# Altium integrated library Microchip PIC24F.IntLib: 529 symbols (part 7 of 32)
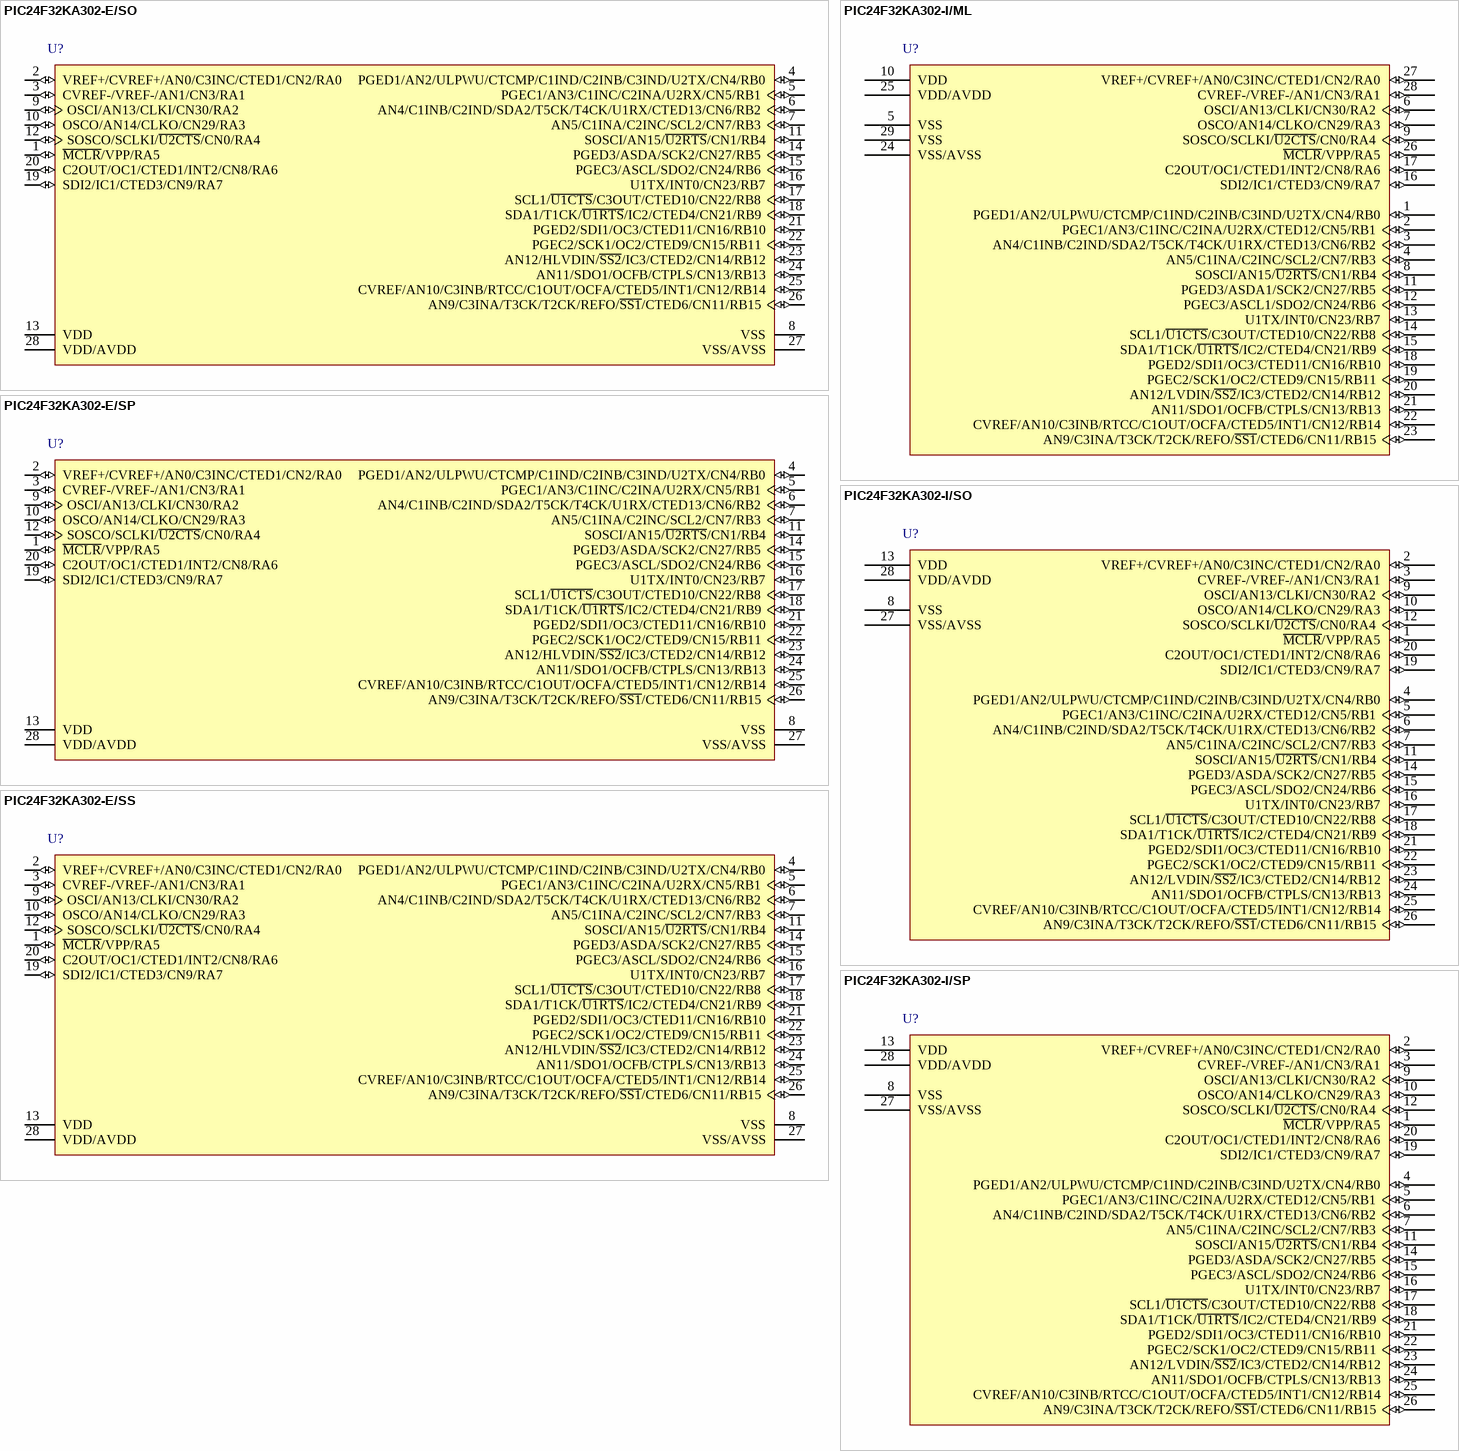
[diagram p128: symbols PIC24F32KA302-E/SO to PIC24F32KA302-I/SP]

## PIC24F32KA302-I/SO
designator U?
16-Bit Flash Microcontroller with XLP Technology, 32KB Flash, 2KB SRAM, 28-Pin SOIC, Industrial Temperature; Manufacturer: Microchip; PartNumber: PIC24F32KA302-I/SO; DatasheetVersion: revB, Apr-2011; PackageVersion: revBB, Aug-2009; PackageReference: SOIC-SO28; PackageDescription: 28-Lead Plastic Small Outline (SO) - Wide 7.50mm Body [SOIC]; Supplier 1: Digi-Key; Supplier Part Number 1: PIC24F32KA302-I/SO-ND; Supplier 2: Farnell; Supplier Part Number 2: 1898800; Supplier 3: Newark; Supplier Part Number 3: 79R3598; Supplier 4: Mouser; Supplier Part Number 4: 579-PIC24F32KA302ISO; Mounting Technology: Surface Mount; Code_JEDEC: MS-013; ComponentLink1Description: Manufacturer URL; ComponentLink1URL: http://www.microchip.com/; ComponentLink2Description: Datasheet; ComponentLink2URL: http://ww1.microchip.com/downloads/en/DeviceDoc/39995_b.pdf; ComponentLink3Description: Package Specification; ComponentLink3URL: http://www.microchip.com/stellent/groups/techpub_sg/documents/packagingspec/en012702.pdf
footprint SOIC-SO28_N (SOIC, 28-Leads, Body 17.9x7.5mm, Pitch 1.27mm, IPC Medium Density)
footprint SOIC-SO28_L (SOIC, 28-Leads, Body 17.9x7.5mm, Pitch 1.27mm, IPC High Density)
footprint SOIC-SO28_M (SOIC, 28-Leads, Body 17.9x7.5mm, Pitch 1.27mm, IPC Low Density)
pins: 1 ~{MCLR}/VPP/RA5 (io), 2 VREF+/CVREF+/AN0/C3INC/CTED1/CN2/RA0 (io), 3 CVREF-/VREF-/AN1/CN3/RA1 (io), 4 PGED1/AN2/ULPWU/CTCMP/C1IND/C2INB/C3IND/U2TX/CN4/RB0 (io), 5 PGEC1/AN3/C1INC/C2INA/U2RX/CTED12/CN5/RB1 (io), 6 AN4/C1INB/C2IND/SDA2/T5CK/T4CK/U1RX/CTED13/CN6/RB2 (io), 7 AN5/C1INA/C2INC/SCL2/CN7/RB3 (io), 8 VSS (power), 9 OSCI/AN13/CLKI/CN30/RA2 (io), 10 OSCO/AN14/CLKO/CN29/RA3 (io), 11 SOSCI/AN15/~{U2RTS}/CN1/RB4 (io), 12 SOSCO/SCLKI/~{U2CTS}/CN0/RA4 (io), 13 VDD (power), 14 PGED3/ASDA/SCK2/CN27/RB5 (io), 15 PGEC3/ASCL/SDO2/CN24/RB6 (io), 16 U1TX/INT0/CN23/RB7 (io), 17 SCL1/~{U1CTS}/C3OUT/CTED10/CN22/RB8 (io), 18 SDA1/T1CK/~{U1RTS}/IC2/CTED4/CN21/RB9 (io), 19 SDI2/IC1/CTED3/CN9/RA7 (io), 20 C2OUT/OC1/CTED1/INT2/CN8/RA6 (io), 21 PGED2/SDI1/OC3/CTED11/CN16/RB10 (io), 22 PGEC2/SCK1/OC2/CTED9/CN15/RB11 (io), 23 AN12/LVDIN/~{SS2}/IC3/CTED2/CN14/RB12 (io), 24 AN11/SDO1/OCFB/CTPLS/CN13/RB13 (io), 25 CVREF/AN10/C3INB/RTCC/C1OUT/OCFA/CTED5/INT1/CN12/RB14 (io), 26 AN9/C3INA/T3CK/T2CK/REFO/~{SS1}/CTED6/CN11/RB15 (io), 27 VSS/AVSS (power), 28 VDD/AVDD (power)

## PIC24F32KA302-I/SP
designator U?
16-Bit Flash Microcontroller with XLP Technology, 32KB Flash, 2KB SRAM, 28-Pin SPDIP, Industrial Temperature; Manufacturer: Microchip; PartNumber: PIC24F32KA302-I/SP; DatasheetVersion: revB, Apr-2011; PackageVersion: revBB, Aug-2009; PackageReference: SPDIP300-SP28; PackageDescription: 28-Lead Skinny Plastic Dual In-Line (SP) - 300 mil Body [SPDIP]; Supplier 1: Digi-Key; Supplier Part Number 1: PIC24F32KA302-I/SP-ND; Supplier 2: Farnell; Supplier Part Number 2: 1898801; Supplier 3: Newark; Supplier Part Number 3: 79R3599; Supplier 4: Mouser; Supplier Part Number 4: 579-PIC24F32KA302ISP; Mounting Technology: Through Hole; ComponentLink1Description: Manufacturer URL; ComponentLink1URL: http://www.microchip.com/; ComponentLink2Description: Datasheet; ComponentLink2URL: http://ww1.microchip.com/downloads/en/DeviceDoc/39995_b.pdf; ComponentLink3Description: Package Specification; ComponentLink3URL: http://www.microchip.com/stellent/groups/techpub_sg/documents/packagingspec/en012702.pdf
footprint SPDIP300-SP28 (DIP, 28-Leads, Row Spacing 7.62mm, Pitch 2.54mm, Body 34.9x6.8mm)
pins: 1 ~{MCLR}/VPP/RA5 (io), 2 VREF+/CVREF+/AN0/C3INC/CTED1/CN2/RA0 (io), 3 CVREF-/VREF-/AN1/CN3/RA1 (io), 4 PGED1/AN2/ULPWU/CTCMP/C1IND/C2INB/C3IND/U2TX/CN4/RB0 (io), 5 PGEC1/AN3/C1INC/C2INA/U2RX/CTED12/CN5/RB1 (io), 6 AN4/C1INB/C2IND/SDA2/T5CK/T4CK/U1RX/CTED13/CN6/RB2 (io), 7 AN5/C1INA/C2INC/SCL2/CN7/RB3 (io), 8 VSS (power), 9 OSCI/AN13/CLKI/CN30/RA2 (io), 10 OSCO/AN14/CLKO/CN29/RA3 (io), 11 SOSCI/AN15/~{U2RTS}/CN1/RB4 (io), 12 SOSCO/SCLKI/~{U2CTS}/CN0/RA4 (io), 13 VDD (power), 14 PGED3/ASDA/SCK2/CN27/RB5 (io), 15 PGEC3/ASCL/SDO2/CN24/RB6 (io), 16 U1TX/INT0/CN23/RB7 (io), 17 SCL1/~{U1CTS}/C3OUT/CTED10/CN22/RB8 (io), 18 SDA1/T1CK/~{U1RTS}/IC2/CTED4/CN21/RB9 (io), 19 SDI2/IC1/CTED3/CN9/RA7 (io), 20 C2OUT/OC1/CTED1/INT2/CN8/RA6 (io), 21 PGED2/SDI1/OC3/CTED11/CN16/RB10 (io), 22 PGEC2/SCK1/OC2/CTED9/CN15/RB11 (io), 23 AN12/LVDIN/~{SS2}/IC3/CTED2/CN14/RB12 (io), 24 AN11/SDO1/OCFB/CTPLS/CN13/RB13 (io), 25 CVREF/AN10/C3INB/RTCC/C1OUT/OCFA/CTED5/INT1/CN12/RB14 (io), 26 AN9/C3INA/T3CK/T2CK/REFO/~{SS1}/CTED6/CN11/RB15 (io), 27 VSS/AVSS (power), 28 VDD/AVDD (power)

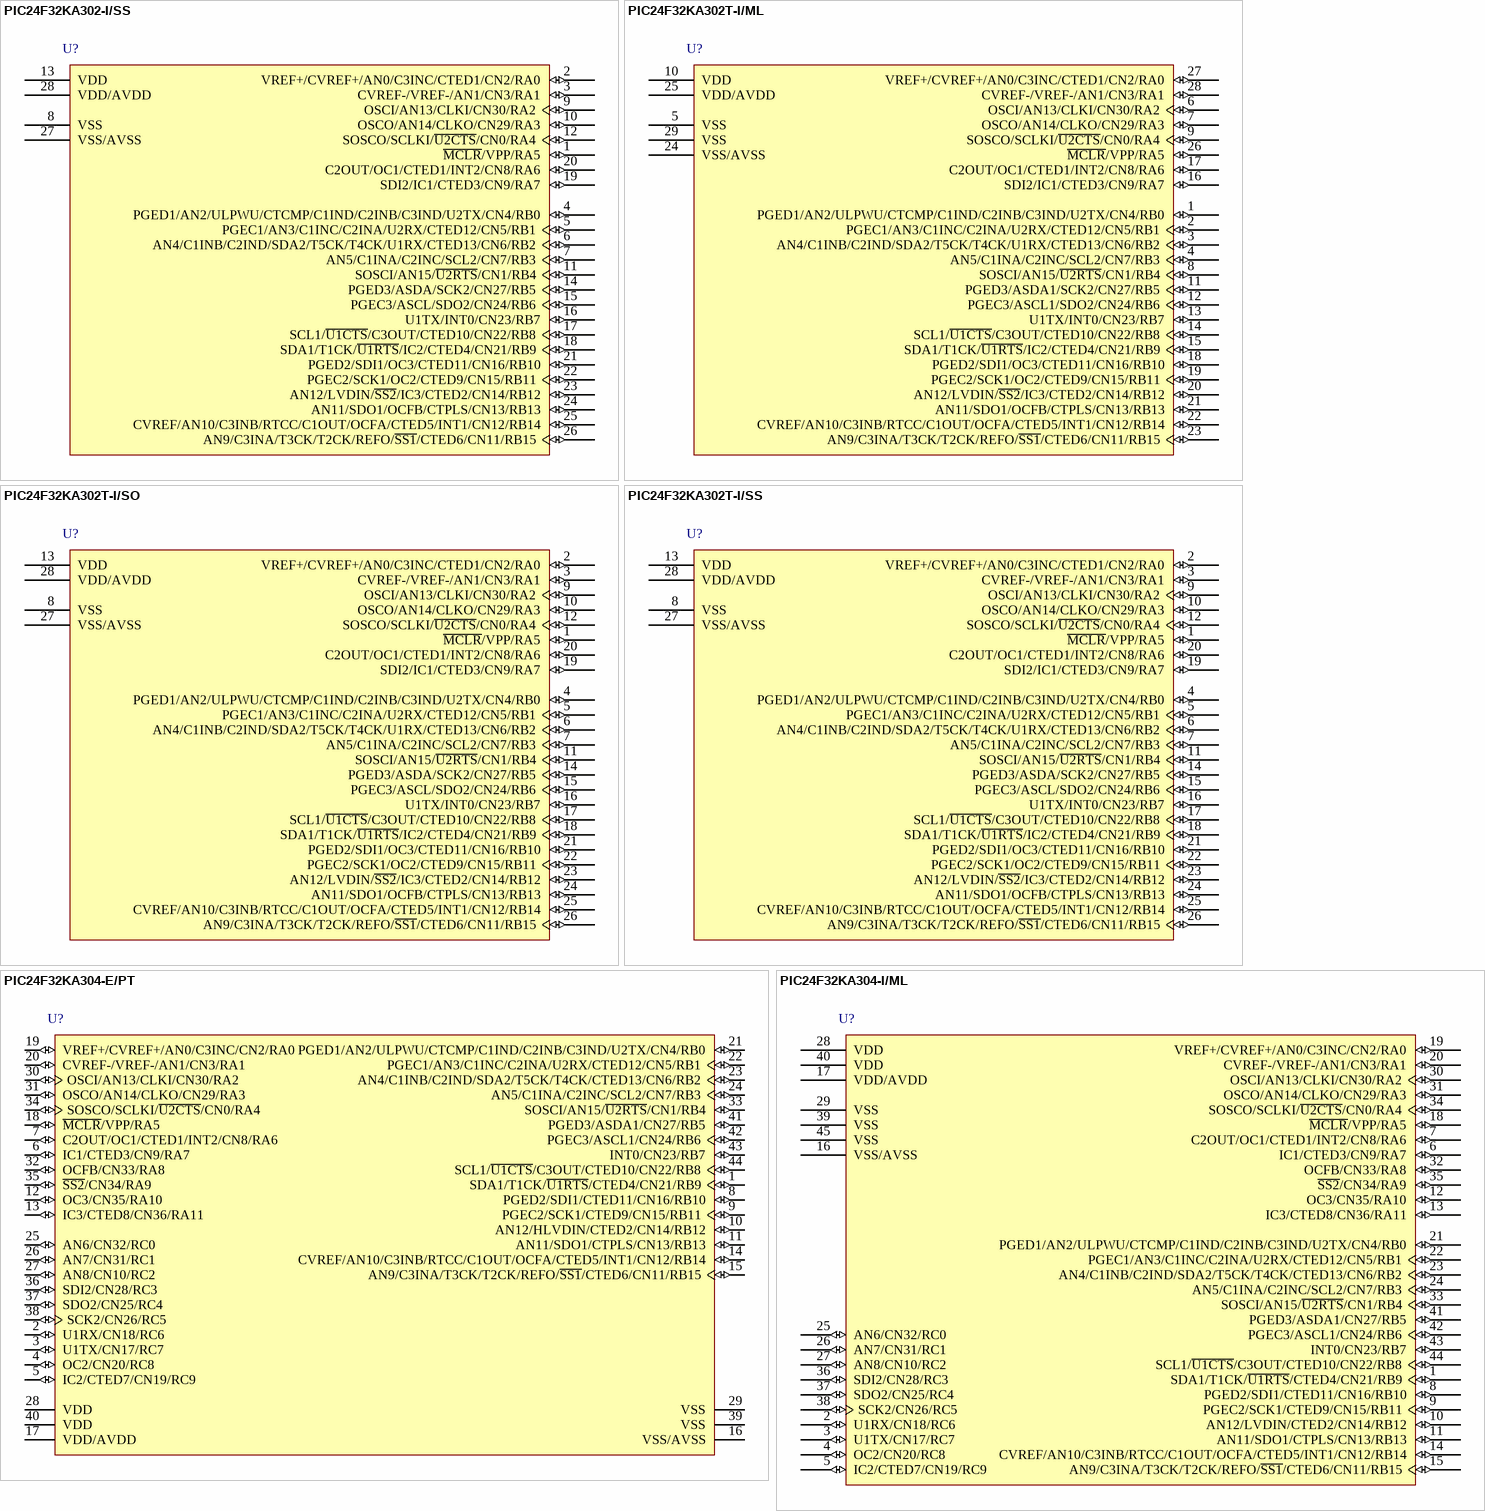
[diagram p19: symbols PIC24F32KA302-I/SS to PIC24F32KA304-I/ML]

## PIC24F32KA302-I/SS
designator U?
16-Bit Flash Microcontroller with XLP Technology, 32KB Flash, 2KB SRAM, 28-Pin SSOP, Industrial Temperature; Manufacturer: Microchip; PartNumber: PIC24F32KA302-I/SS; DatasheetVersion: revB, Apr-2011; PackageVersion: revBB, Aug-2009; PackageReference: SSOP-SS28; PackageDescription: 28-Lead Plastic Shrink Small Outline (SS) - 5.3mm Body [SSOP]; Supplier 1: Digi-Key; Supplier Part Number 1: PIC24F32KA302-I/SS-ND; Supplier 2: Newark; Supplier Part Number 2: 79R3600; Supplier 3: Mouser; Supplier Part Number 3: 579-PIC24F32KA302ISS; Mounting Technology: Surface Mount; Code_JEDEC: MS-150; ComponentLink1Description: Manufacturer URL; ComponentLink1URL: http://www.microchip.com/; ComponentLink2Description: Datasheet; ComponentLink2URL: http://ww1.microchip.com/downloads/en/DeviceDoc/39995_b.pdf; ComponentLink3Description: Package Specification; ComponentLink3URL: http://www.microchip.com/stellent/groups/techpub_sg/documents/packagingspec/en012702.pdf
footprint SSOP-SS28_N (SOP, 28-Leads, Body 10.2x5.2mm, Pitch 0.65mm, IPC Medium Density)
footprint SSOP-SS28_L (SOP, 28-Leads, Body 10.2x5.2mm, Pitch 0.65mm, IPC High Density)
footprint SSOP-SS28_M (SOP, 28-Leads, Body 10.2x5.2mm, Pitch 0.65mm, IPC Low Density)
pins: 1 ~{MCLR}/VPP/RA5 (io), 2 VREF+/CVREF+/AN0/C3INC/CTED1/CN2/RA0 (io), 3 CVREF-/VREF-/AN1/CN3/RA1 (io), 4 PGED1/AN2/ULPWU/CTCMP/C1IND/C2INB/C3IND/U2TX/CN4/RB0 (io), 5 PGEC1/AN3/C1INC/C2INA/U2RX/CTED12/CN5/RB1 (io), 6 AN4/C1INB/C2IND/SDA2/T5CK/T4CK/U1RX/CTED13/CN6/RB2 (io), 7 AN5/C1INA/C2INC/SCL2/CN7/RB3 (io), 8 VSS (power), 9 OSCI/AN13/CLKI/CN30/RA2 (io), 10 OSCO/AN14/CLKO/CN29/RA3 (io), 11 SOSCI/AN15/~{U2RTS}/CN1/RB4 (io), 12 SOSCO/SCLKI/~{U2CTS}/CN0/RA4 (io), 13 VDD (power), 14 PGED3/ASDA/SCK2/CN27/RB5 (io), 15 PGEC3/ASCL/SDO2/CN24/RB6 (io), 16 U1TX/INT0/CN23/RB7 (io), 17 SCL1/~{U1CTS}/C3OUT/CTED10/CN22/RB8 (io), 18 SDA1/T1CK/~{U1RTS}/IC2/CTED4/CN21/RB9 (io), 19 SDI2/IC1/CTED3/CN9/RA7 (io), 20 C2OUT/OC1/CTED1/INT2/CN8/RA6 (io), 21 PGED2/SDI1/OC3/CTED11/CN16/RB10 (io), 22 PGEC2/SCK1/OC2/CTED9/CN15/RB11 (io), 23 AN12/LVDIN/~{SS2}/IC3/CTED2/CN14/RB12 (io), 24 AN11/SDO1/OCFB/CTPLS/CN13/RB13 (io), 25 CVREF/AN10/C3INB/RTCC/C1OUT/OCFA/CTED5/INT1/CN12/RB14 (io), 26 AN9/C3INA/T3CK/T2CK/REFO/~{SS1}/CTED6/CN11/RB15 (io), 27 VSS/AVSS (power), 28 VDD/AVDD (power)

## PIC24F32KA302T-I/ML
designator U?
16-Bit Flash Microcontroller with XLP Technology, 32KB Flash, 2KB SRAM, 28-Pin QFN, Industrial Temperature, Tape and Reel; Manufacturer: Microchip; PartNumber: PIC24F32KA302T-I/ML; DatasheetVersion: revB, Apr-2011; PackageVersion: revBB, Aug-2009; PackageReference: QFN-ML28; PackageDescription: 28-Lead Plastic Quad Flat, No Lead Package (ML) - 6x6 mm Body [QFN] with 0.55 mm Contact Length; Supplier 1: Digi-Key; Supplier Part Number 1: PIC24F32KA302T-I/ML-ND; Supplier 2: Newark; Supplier Part Number 2: 79R3601; Supplier 3: Mouser; Supplier Part Number 3: 579-PIC24F32KA302TIM; Mounting Technology: Surface Mount; Code_JEDEC: MO-220; ComponentLink1Description: Manufacturer URL; ComponentLink1URL: http://www.microchip.com/; ComponentLink2Description: Datasheet; ComponentLink2URL: http://ww1.microchip.com/downloads/en/DeviceDoc/39995_b.pdf; ComponentLink3Description: Package Specification; ComponentLink3URL: http://www.microchip.com/stellent/groups/techpub_sg/documents/packagingspec/en012702.pdf
footprint QFN-ML28_N (QFN, 28-Leads, Body 6x6mm, Pitch 0.65mm, Thermal Pad 4.2x4.2mm, IPC Medium Density)
footprint QFN-ML28_L (QFN, 28-Leads, Body 6x6mm, Pitch 0.65mm, Thermal Pad 4.2x4.2mm, IPC High Density)
footprint QFN-ML28_M (QFN, 28-Leads, Body 6x6mm, Pitch 0.65mm, Thermal Pad 4.2x4.2mm, IPC Low Density)
pins: 1 PGED1/AN2/ULPWU/CTCMP/C1IND/C2INB/C3IND/U2TX/CN4/RB0 (io), 2 PGEC1/AN3/C1INC/C2INA/U2RX/CTED12/CN5/RB1 (io), 3 AN4/C1INB/C2IND/SDA2/T5CK/T4CK/U1RX/CTED13/CN6/RB2 (io), 4 AN5/C1INA/C2INC/SCL2/CN7/RB3 (io), 5 VSS (power), 6 OSCI/AN13/CLKI/CN30/RA2 (io), 7 OSCO/AN14/CLKO/CN29/RA3 (io), 8 SOSCI/AN15/~{U2RTS}/CN1/RB4 (io), 9 SOSCO/SCLKI/~{U2CTS}/CN0/RA4 (io), 10 VDD (power), 11 PGED3/ASDA1/SCK2/CN27/RB5 (io), 12 PGEC3/ASCL1/SDO2/CN24/RB6 (io), 13 U1TX/INT0/CN23/RB7 (io), 14 SCL1/~{U1CTS}/C3OUT/CTED10/CN22/RB8 (io), 15 SDA1/T1CK/~{U1RTS}/IC2/CTED4/CN21/RB9 (io), 16 SDI2/IC1/CTED3/CN9/RA7 (io), 17 C2OUT/OC1/CTED1/INT2/CN8/RA6 (io), 18 PGED2/SDI1/OC3/CTED11/CN16/RB10 (io), 19 PGEC2/SCK1/OC2/CTED9/CN15/RB11 (io), 20 AN12/LVDIN/~{SS2}/IC3/CTED2/CN14/RB12 (io), 21 AN11/SDO1/OCFB/CTPLS/CN13/RB13 (io), 22 CVREF/AN10/C3INB/RTCC/C1OUT/OCFA/CTED5/INT1/CN12/RB14 (io), 23 AN9/C3INA/T3CK/T2CK/REFO/~{SS1}/CTED6/CN11/RB15 (io), 24 VSS/AVSS (power), 25 VDD/AVDD (power), 26 ~{MCLR}/VPP/RA5 (io), 27 VREF+/CVREF+/AN0/C3INC/CTED1/CN2/RA0 (io), 28 CVREF-/VREF-/AN1/CN3/RA1 (io), 29 VSS (power)

## PIC24F32KA302T-I/SO
designator U?
16-Bit Flash Microcontroller with XLP Technology, 32KB Flash, 2KB SRAM, 28-Pin SOIC, Industrial Temperature, Tape and Reel; Manufacturer: Microchip; PartNumber: PIC24F32KA302T-I/SO; DatasheetVersion: revB, Apr-2011; PackageVersion: revBB, Aug-2009; PackageReference: SOIC-SO28; PackageDescription: 28-Lead Plastic Small Outline (SO) - Wide 7.50mm Body [SOIC]; Supplier 1: Digi-Key; Supplier Part Number 1: PIC24F32KA302T-I/SO-ND; Supplier 2: Mouser; Supplier Part Number 2: 579-PIC24F32KA302TI; Mounting Technology: Surface Mount; Code_JEDEC: MS-013; ComponentLink1Description: Manufacturer URL; ComponentLink1URL: http://www.microchip.com/; ComponentLink2Description: Datasheet; ComponentLink2URL: http://ww1.microchip.com/downloads/en/DeviceDoc/39995_b.pdf; ComponentLink3Description: Package Specification; ComponentLink3URL: http://www.microchip.com/stellent/groups/techpub_sg/documents/packagingspec/en012702.pdf
footprint SOIC-SO28_N (SOIC, 28-Leads, Body 17.9x7.5mm, Pitch 1.27mm, IPC Medium Density)
footprint SOIC-SO28_L (SOIC, 28-Leads, Body 17.9x7.5mm, Pitch 1.27mm, IPC High Density)
footprint SOIC-SO28_M (SOIC, 28-Leads, Body 17.9x7.5mm, Pitch 1.27mm, IPC Low Density)
pins: 1 ~{MCLR}/VPP/RA5 (io), 2 VREF+/CVREF+/AN0/C3INC/CTED1/CN2/RA0 (io), 3 CVREF-/VREF-/AN1/CN3/RA1 (io), 4 PGED1/AN2/ULPWU/CTCMP/C1IND/C2INB/C3IND/U2TX/CN4/RB0 (io), 5 PGEC1/AN3/C1INC/C2INA/U2RX/CTED12/CN5/RB1 (io), 6 AN4/C1INB/C2IND/SDA2/T5CK/T4CK/U1RX/CTED13/CN6/RB2 (io), 7 AN5/C1INA/C2INC/SCL2/CN7/RB3 (io), 8 VSS (power), 9 OSCI/AN13/CLKI/CN30/RA2 (io), 10 OSCO/AN14/CLKO/CN29/RA3 (io), 11 SOSCI/AN15/~{U2RTS}/CN1/RB4 (io), 12 SOSCO/SCLKI/~{U2CTS}/CN0/RA4 (io), 13 VDD (power), 14 PGED3/ASDA/SCK2/CN27/RB5 (io), 15 PGEC3/ASCL/SDO2/CN24/RB6 (io), 16 U1TX/INT0/CN23/RB7 (io), 17 SCL1/~{U1CTS}/C3OUT/CTED10/CN22/RB8 (io), 18 SDA1/T1CK/~{U1RTS}/IC2/CTED4/CN21/RB9 (io), 19 SDI2/IC1/CTED3/CN9/RA7 (io), 20 C2OUT/OC1/CTED1/INT2/CN8/RA6 (io), 21 PGED2/SDI1/OC3/CTED11/CN16/RB10 (io), 22 PGEC2/SCK1/OC2/CTED9/CN15/RB11 (io), 23 AN12/LVDIN/~{SS2}/IC3/CTED2/CN14/RB12 (io), 24 AN11/SDO1/OCFB/CTPLS/CN13/RB13 (io), 25 CVREF/AN10/C3INB/RTCC/C1OUT/OCFA/CTED5/INT1/CN12/RB14 (io), 26 AN9/C3INA/T3CK/T2CK/REFO/~{SS1}/CTED6/CN11/RB15 (io), 27 VSS/AVSS (power), 28 VDD/AVDD (power)

## PIC24F32KA302T-I/SS
designator U?
16-Bit Flash Microcontroller with XLP Technology, 32KB Flash, 2KB SRAM, 28-Pin SSOP, Industrial Temperature, Tape and Reel; Manufacturer: Microchip; PartNumber: PIC24F32KA302T-I/SS; DatasheetVersion: revB, Apr-2011; PackageVersion: revBB, Aug-2009; PackageReference: SSOP-SS28; PackageDescription: 28-Lead Plastic Shrink Small Outline (SS) - 5.3mm Body [SSOP]; Supplier 1: Digi-Key; Supplier Part Number 1: PIC24F32KA302T-I/SS-ND; Supplier 2: Mouser; Supplier Part Number 2: 579-PIC24F32KA302TIS; Mounting Technology: Surface Mount; Code_JEDEC: MS-150; ComponentLink1Description: Manufacturer URL; ComponentLink1URL: http://www.microchip.com/; ComponentLink2Description: Datasheet; ComponentLink2URL: http://ww1.microchip.com/downloads/en/DeviceDoc/39995_b.pdf; ComponentLink3Description: Package Specification; ComponentLink3URL: http://www.microchip.com/stellent/groups/techpub_sg/documents/packagingspec/en012702.pdf
footprint SSOP-SS28_N (SOP, 28-Leads, Body 10.2x5.2mm, Pitch 0.65mm, IPC Medium Density)
footprint SSOP-SS28_L (SOP, 28-Leads, Body 10.2x5.2mm, Pitch 0.65mm, IPC High Density)
footprint SSOP-SS28_M (SOP, 28-Leads, Body 10.2x5.2mm, Pitch 0.65mm, IPC Low Density)
pins: 1 ~{MCLR}/VPP/RA5 (io), 2 VREF+/CVREF+/AN0/C3INC/CTED1/CN2/RA0 (io), 3 CVREF-/VREF-/AN1/CN3/RA1 (io), 4 PGED1/AN2/ULPWU/CTCMP/C1IND/C2INB/C3IND/U2TX/CN4/RB0 (io), 5 PGEC1/AN3/C1INC/C2INA/U2RX/CTED12/CN5/RB1 (io), 6 AN4/C1INB/C2IND/SDA2/T5CK/T4CK/U1RX/CTED13/CN6/RB2 (io), 7 AN5/C1INA/C2INC/SCL2/CN7/RB3 (io), 8 VSS (power), 9 OSCI/AN13/CLKI/CN30/RA2 (io), 10 OSCO/AN14/CLKO/CN29/RA3 (io), 11 SOSCI/AN15/~{U2RTS}/CN1/RB4 (io), 12 SOSCO/SCLKI/~{U2CTS}/CN0/RA4 (io), 13 VDD (power), 14 PGED3/ASDA/SCK2/CN27/RB5 (io), 15 PGEC3/ASCL/SDO2/CN24/RB6 (io), 16 U1TX/INT0/CN23/RB7 (io), 17 SCL1/~{U1CTS}/C3OUT/CTED10/CN22/RB8 (io), 18 SDA1/T1CK/~{U1RTS}/IC2/CTED4/CN21/RB9 (io), 19 SDI2/IC1/CTED3/CN9/RA7 (io), 20 C2OUT/OC1/CTED1/INT2/CN8/RA6 (io), 21 PGED2/SDI1/OC3/CTED11/CN16/RB10 (io), 22 PGEC2/SCK1/OC2/CTED9/CN15/RB11 (io), 23 AN12/LVDIN/~{SS2}/IC3/CTED2/CN14/RB12 (io), 24 AN11/SDO1/OCFB/CTPLS/CN13/RB13 (io), 25 CVREF/AN10/C3INB/RTCC/C1OUT/OCFA/CTED5/INT1/CN12/RB14 (io), 26 AN9/C3INA/T3CK/T2CK/REFO/~{SS1}/CTED6/CN11/RB15 (io), 27 VSS/AVSS (power), 28 VDD/AVDD (power)

## PIC24F32KA304-E/PT
designator U?
General Purpose, 16-Bit Flash Microcontroller with XLP Technology, 16 MIPS, 38 I/O, -40 to 125 degC, 44-pin TQFP (PT44), Tray; Manufacturer: Microchip; PartNumber: PIC24F32KA304-E/PT; DatasheetVersion: Rev. C; PackageVersion: C04-076B; PackageReference: TQFP-PT44; PackageDescription: 44-Lead Plastic Thin Quad Flatpack, 10 x 10 mm Body, 0.8 mm Pitch; Supplier 1: Digi-Key; Supplier Part Number 1: PIC24F32KA304-E/PT-ND; Supplier 2: Mouser; Supplier Part Number 2: N/A; Mounting Technology: Surface Mount; ComponentLink1Description: Manufacturer URL; ComponentLink1URL: http://www.microchip.com; ComponentLink2Description: Datasheet; ComponentLink2URL: http://ww1.microchip.com/downloads/en/DeviceDoc/39995c.pdf; ComponentLink3Description: Package Specification; ComponentLink3URL: http://www.microchip.com/stellent/groups/techpub_sg/documents/packagingspec/en012702.pdf; ComponentLink4Description: Product URL; ComponentLink4URL: http://www.microchip.com/PIC24F32KA304
footprint MCHP-TQFP-PT44_N (QFN, 44-Leads, Body 10x10mm, Pitch 0.8mm, IPC Medium Density)
footprint MCHP-TQFP-PT44_L (QFN, 44-Leads, Body 10x10mm, Pitch 0.8mm, IPC High Density)
footprint MCHP-TQFP-PT44_M (QFN, 44-Leads, Body 10x10mm, Pitch 0.8mm, IPC Low Density)
pins: 1 SDA1/T1CK/~{U1RTS}/CTED4/CN21/RB9 (io), 2 U1RX/CN18/RC6 (io), 3 U1TX/CN17/RC7 (io), 4 OC2/CN20/RC8 (io), 5 IC2/CTED7/CN19/RC9 (io), 6 IC1/CTED3/CN9/RA7 (io), 7 C2OUT/OC1/CTED1/INT2/CN8/RA6 (io), 8 PGED2/SDI1/CTED11/CN16/RB10 (io), 9 PGEC2/SCK1/CTED9/CN15/RB11 (io), 10 AN12/HLVDIN/CTED2/CN14/RB12 (io), 11 AN11/SDO1/CTPLS/CN13/RB13 (io), 12 OC3/CN35/RA10 (io), 13 IC3/CTED8/CN36/RA11 (io), 14 CVREF/AN10/C3INB/RTCC/C1OUT/OCFA/CTED5/INT1/CN12/RB14 (io), 15 AN9/C3INA/T3CK/T2CK/REFO/~{SS1}/CTED6/CN11/RB15 (io), 16 VSS/AVSS (power), 17 VDD/AVDD (power), 18 ~{MCLR}/VPP/RA5 (io), 19 VREF+/CVREF+/AN0/C3INC/CN2/RA0 (io), 20 CVREF-/VREF-/AN1/CN3/RA1 (io), 21 PGED1/AN2/ULPWU/CTCMP/C1IND/C2INB/C3IND/U2TX/CN4/RB0 (io), 22 PGEC1/AN3/C1INC/C2INA/U2RX/CTED12/CN5/RB1 (io), 23 AN4/C1INB/C2IND/SDA2/T5CK/T4CK/CTED13/CN6/RB2 (io), 24 AN5/C1INA/C2INC/SCL2/CN7/RB3 (io), 25 AN6/CN32/RC0 (io), 26 AN7/CN31/RC1 (io), 27 AN8/CN10/RC2 (io), 28 VDD (power) "Core Power", 29 VSS (power) "Device Digital Ground Return", 30 OSCI/AN13/CLKI/CN30/RA2 (io), 31 OSCO/AN14/CLKO/CN29/RA3 (io), 32 OCFB/CN33/RA8 (io), 33 SOSCI/AN15/~{U2RTS}/CN1/RB4 (io), 34 SOSCO/SCLKI/~{U2CTS}/CN0/RA4 (io), 35 ~{SS2}/CN34/RA9 (io), 36 SDI2/CN28/RC3 (io), 37 SDO2/CN25/RC4 (io), 38 SCK2/CN26/RC5 (io), 39 VSS (power) "Device Digital Ground Return", 40 VDD (power) "Core Power", 41 PGED3/ASDA1/CN27/RB5 (io), 42 PGEC3/ASCL1/CN24/RB6 (io), 43 INT0/CN23/RB7 (io), 44 SCL1/~{U1CTS}/C3OUT/CTED10/CN22/RB8 (io)

## PIC24F32KA304-I/ML
designator U?
16-Bit Flash Microcontroller with XLP Technology, 32KB Flash, 2KB SRAM, 44-Pin QFN, Industrial Temperature; Manufacturer: Microchip; PartNumber: PIC24F32KA304-I/ML; DatasheetVersion: revB, Apr-2011; PackageVersion: revBB, Aug-2009; PackageReference: QFN-ML44; PackageDescription: 44-Lead Plastic Quad Flat, No Lead Package (ML) - 8x8 mm Body [QFN]; Supplier 1: Digi-Key; Supplier Part Number 1: PIC24F32KA304-I/ML-ND; Supplier 2: Newark; Supplier Part Number 2: 79R3604; Supplier 3: Mouser; Supplier Part Number 3: 579-PIC24F32KA304IML; Mounting Technology: Surface Mount; Code_JEDEC: MO-220; Code_IPC: QFN65P800X800-44V2; ComponentLink1Description: Manufacturer URL; ComponentLink1URL: http://www.microchip.com/; ComponentLink2Description: Datasheet; ComponentLink2URL: http://ww1.microchip.com/downloads/en/DeviceDoc/39995_b.pdf; ComponentLink3Description: Package Specification; ComponentLink3URL: http://www.microchip.com/stellent/groups/techpub_sg/documents/packagingspec/en012702.pdf
footprint QFN-ML44_N (QFN, 44-Leads, Body 8x8mm, Pitch 0.65mm, Thermal Pad 6.8x6.8mm, IPC Medium Density)
footprint QFN-ML44_L (QFN, 44-Leads, Body 8x8mm, Pitch 0.65mm, Thermal Pad 6.8x6.8mm, IPC High Density)
footprint QFN-ML44_M (QFN, 44-Leads, Body 8x8mm, Pitch 0.65mm, Thermal Pad 6.8x6.8mm, IPC Low Density)
pins: 1 SDA1/T1CK/~{U1RTS}/CTED4/CN21/RB9 (io), 2 U1RX/CN18/RC6 (io), 3 U1TX/CN17/RC7 (io), 4 OC2/CN20/RC8 (io), 5 IC2/CTED7/CN19/RC9 (io), 6 IC1/CTED3/CN9/RA7 (io), 7 C2OUT/OC1/CTED1/INT2/CN8/RA6 (io), 8 PGED2/SDI1/CTED11/CN16/RB10 (io), 9 PGEC2/SCK1/CTED9/CN15/RB11 (io), 10 AN12/LVDIN/CTED2/CN14/RB12 (io), 11 AN11/SDO1/CTPLS/CN13/RB13 (io), 12 OC3/CN35/RA10 (io), 13 IC3/CTED8/CN36/RA11 (io), 14 CVREF/AN10/C3INB/RTCC/C1OUT/OCFA/CTED5/INT1/CN12/RB14 (io), 15 AN9/C3INA/T3CK/T2CK/REFO/~{SS1}/CTED6/CN11/RB15 (io), 16 VSS/AVSS (power), 17 VDD/AVDD (power), 18 ~{MCLR}/VPP/RA5 (io), 19 VREF+/CVREF+/AN0/C3INC/CN2/RA0 (io), 20 CVREF-/VREF-/AN1/CN3/RA1 (io), 21 PGED1/AN2/ULPWU/CTCMP/C1IND/C2INB/C3IND/U2TX/CN4/RB0 (io), 22 PGEC1/AN3/C1INC/C2INA/U2RX/CTED12/CN5/RB1 (io), 23 AN4/C1INB/C2IND/SDA2/T5CK/T4CK/CTED13/CN6/RB2 (io), 24 AN5/C1INA/C2INC/SCL2/CN7/RB3 (io), 25 AN6/CN32/RC0 (io), 26 AN7/CN31/RC1 (io), 27 AN8/CN10/RC2 (io), 28 VDD (power), 29 VSS (power), 30 OSCI/AN13/CLKI/CN30/RA2 (io), 31 OSCO/AN14/CLKO/CN29/RA3 (io), 32 OCFB/CN33/RA8 (io), 33 SOSCI/AN15/~{U2RTS}/CN1/RB4 (io), 34 SOSCO/SCLKI/~{U2CTS}/CN0/RA4 (io), 35 ~{SS2}/CN34/RA9 (io), 36 SDI2/CN28/RC3 (io), 37 SDO2/CN25/RC4 (io), 38 SCK2/CN26/RC5 (io), 39 VSS (power), 40 VDD (power), 41 PGED3/ASDA1/CN27/RB5 (io), 42 PGEC3/ASCL1/CN24/RB6 (io), 43 INT0/CN23/RB7 (io), 44 SCL1/~{U1CTS}/C3OUT/CTED10/CN22/RB8 (io), 45 VSS (power)

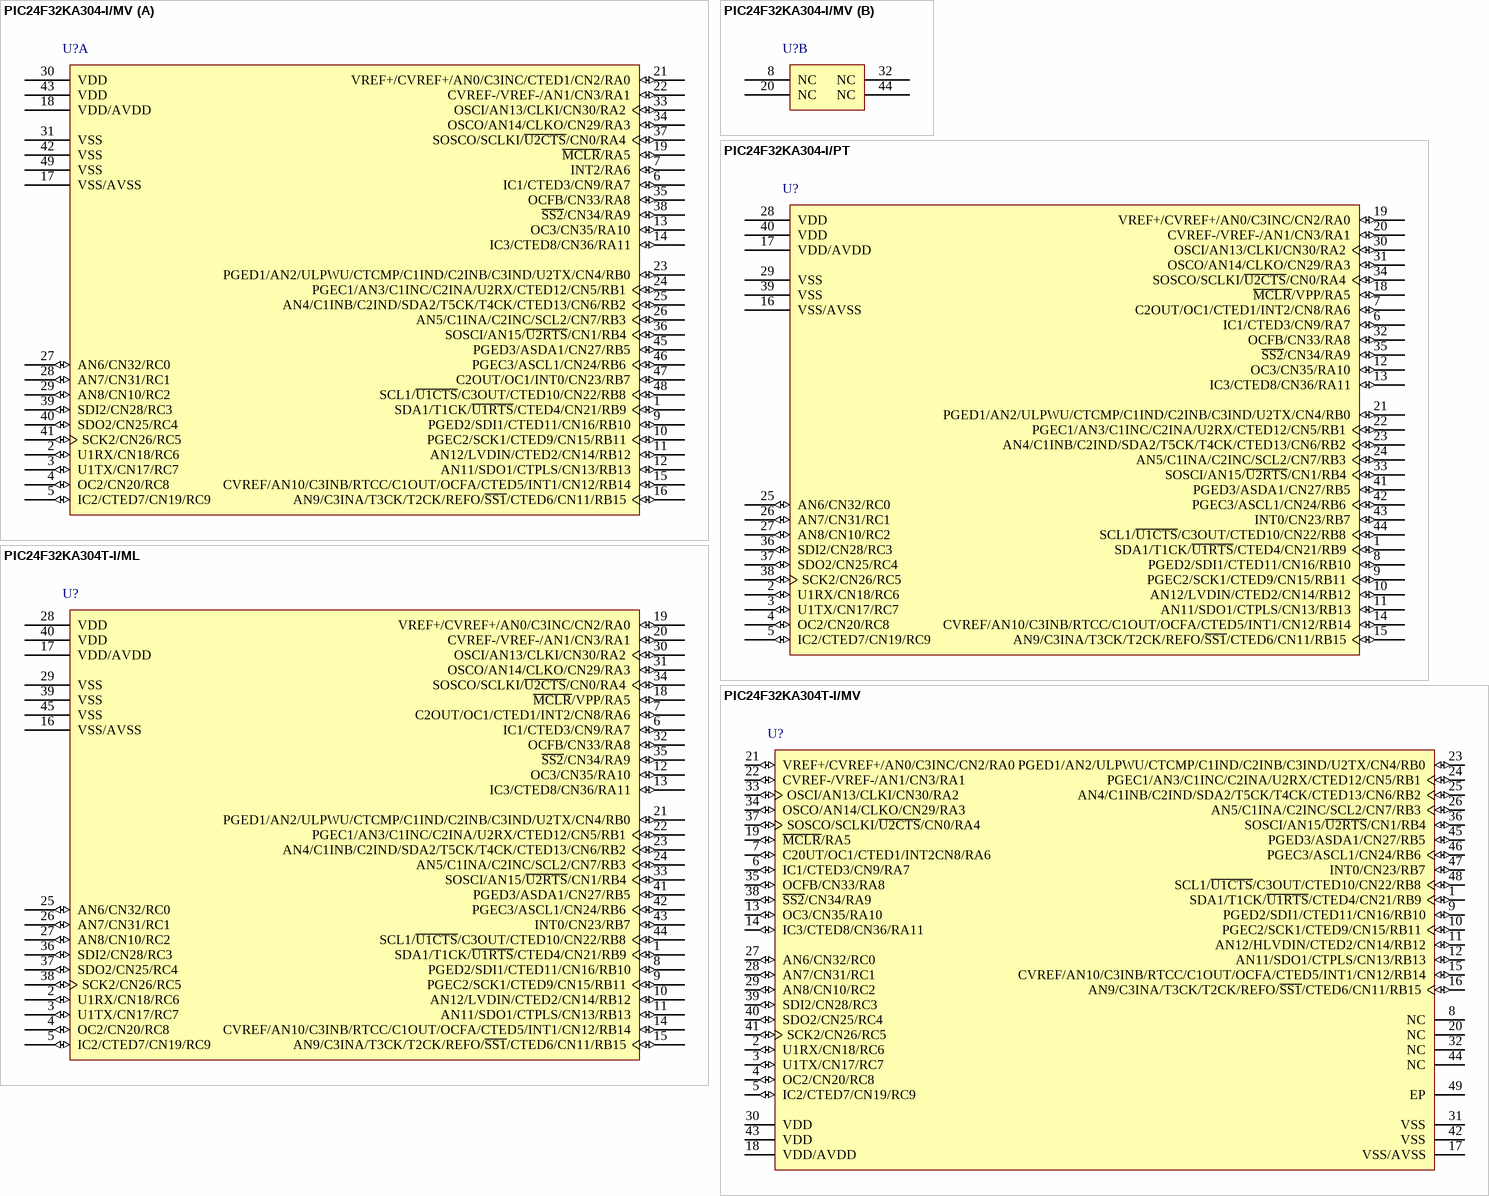
[diagram p20: symbols PIC24F32KA304-I/MV to PIC24F32KA304T-I/MV]

## PIC24F32KA304-I/MV
designator U?
16-Bit Flash Microcontroller with XLP Technology, 32KB Flash, 2KB SRAM, 48-Pin UQFN, Industrial Temperature; Manufacturer: Microchip; PartNumber: PIC24F32KA304-I/MV; DatasheetVersion: revB, Apr-2011; PackageVersion: revBG, Mar-2011; PackageReference: UQFN-MV48; PackageDescription: 48-Lead Plastic Ultra Thin Quad Flat, No Lead Package (MV) - 6x6x0.5 mm Body [UQFN]; Supplier 1: Digi-Key; Supplier Part Number 1: PIC24F32KA304-I/MV-ND; Supplier 2: Farnell; Supplier Part Number 2: 1898803; Supplier 3: Newark; Supplier Part Number 3: 55T3737; Supplier 4: Newark; Supplier Part Number 4: 52T4733; Supplier 5: Mouser; Supplier Part Number 5: 579-PIC24F32KA304IMV; Mounting Technology: Surface Mount; ComponentLink1Description: Manufacturer URL; ComponentLink1URL: http://www.microchip.com/; ComponentLink2Description: Datasheet; ComponentLink2URL: http://ww1.microchip.com/downloads/en/DeviceDoc/39995_b.pdf; ComponentLink3Description: Package Specification; ComponentLink3URL: http://www.microchip.com/stellent/groups/techpub_sg/documents/packagingspec/en012702.pdf
footprint UQFN-MV48_N (QFN, 48-Leads, Body 6x6mm, Pitch 0.4mm, Thermal Pad 4.8x4.8mm, IPC Medium Density)
footprint UQFN-MV48_L (QFN, 48-Leads, Body 6x6mm, Pitch 0.4mm, Thermal Pad 4.8x4.8mm, IPC High Density)
footprint UQFN-MV48_M (QFN, 48-Leads, Body 6x6mm, Pitch 0.4mm, Thermal Pad 4.8x4.8mm, IPC Low Density)
part A pins: 1 SDA1/T1CK/~{U1RTS}/CTED4/CN21/RB9 (io), 2 U1RX/CN18/RC6 (io), 3 U1TX/CN17/RC7 (io), 4 OC2/CN20/RC8 (io), 5 IC2/CTED7/CN19/RC9 (io), 6 IC1/CTED3/CN9/RA7 (io), 7 INT2/RA6 (io), 9 PGED2/SDI1/CTED11/CN16/RB10 (io), 10 PGEC2/SCK1/CTED9/CN15/RB11 (io), 11 AN12/LVDIN/CTED2/CN14/RB12 (io), 12 AN11/SDO1/CTPLS/CN13/RB13 (io), 13 OC3/CN35/RA10 (io), 14 IC3/CTED8/CN36/RA11 (io), 15 CVREF/AN10/C3INB/RTCC/C1OUT/OCFA/CTED5/INT1/CN12/RB14 (io), 16 AN9/C3INA/T3CK/T2CK/REFO/~{SS1}/CTED6/CN11/RB15 (io), 17 VSS/AVSS (power), 18 VDD/AVDD (power), 19 ~{MCLR}/RA5 (io), 21 VREF+/CVREF+/AN0/C3INC/CTED1/CN2/RA0 (io), 22 CVREF-/VREF-/AN1/CN3/RA1 (io), 23 PGED1/AN2/ULPWU/CTCMP/C1IND/C2INB/C3IND/U2TX/CN4/RB0 (io), 24 PGEC1/AN3/C1INC/C2INA/U2RX/CTED12/CN5/RB1 (io), 25 AN4/C1INB/C2IND/SDA2/T5CK/T4CK/CTED13/CN6/RB2 (io), 26 AN5/C1INA/C2INC/SCL2/CN7/RB3 (io), 27 AN6/CN32/RC0 (io), 28 AN7/CN31/RC1 (io), 29 AN8/CN10/RC2 (io), 30 VDD (power), 31 VSS (power), 33 OSCI/AN13/CLKI/CN30/RA2 (io), 34 OSCO/AN14/CLKO/CN29/RA3 (io), 35 OCFB/CN33/RA8 (io), 36 SOSCI/AN15/~{U2RTS}/CN1/RB4 (io), 37 SOSCO/SCLKI/~{U2CTS}/CN0/RA4 (io), 38 ~{SS2}/CN34/RA9 (io), 39 SDI2/CN28/RC3 (io), 40 SDO2/CN25/RC4 (io), 41 SCK2/CN26/RC5 (io), 42 VSS (power), 43 VDD (power), 45 PGED3/ASDA1/CN27/RB5 (io), 46 PGEC3/ASCL1/CN24/RB6 (io), 47 C2OUT/OC1/INT0/CN23/RB7 (io), 48 SCL1/~{U1CTS}/C3OUT/CTED10/CN22/RB8 (io), 49 VSS (power)
part B pins: 8 NC, 20 NC, 32 NC, 44 NC

## PIC24F32KA304-I/PT
designator U?
16-Bit Flash Microcontroller with XLP Technology, 32KB Flash, 2KB SRAM, 44-Pin TQFP, Industrial Temperature; Manufacturer: Microchip; PartNumber: PIC24F32KA304-I/PT; DatasheetVersion: revB, Apr-2011; PackageVersion: revBB, Aug-2009; PackageReference: TQFP-PT44; PackageDescription: 44-Lead Plastic Thin Quad Flatpack (PT) - 10x10x1mm Body, 2.00mm [TQFP]; Supplier 1: Digi-Key; Supplier Part Number 1: PIC24F32KA304-I/PT-ND; Supplier 2: Farnell; Supplier Part Number 2: 1898804MPKG; Supplier 3: Farnell; Supplier Part Number 3: 1898804; Supplier 4: Newark; Supplier Part Number 4: 79R3606; Supplier 5: Mouser; Supplier Part Number 5: 579-PIC24F32KA304IPT; Mounting Technology: Surface Mount; Code_JEDEC: MS-026; ComponentLink1Description: Manufacturer URL; ComponentLink1URL: http://www.microchip.com/; ComponentLink2Description: Datasheet; ComponentLink2URL: http://ww1.microchip.com/downloads/en/DeviceDoc/39995_b.pdf; ComponentLink3Description: Package Specification; ComponentLink3URL: http://www.microchip.com/stellent/groups/techpub_sg/documents/packagingspec/en012702.pdf
footprint TQFP-PT44_N (Thin QFP, 44-Leads, Body 10x10mm, Pitch 0.8mm, IPC Medium Density)
footprint TQFP-PT44_L (Thin QFP, 44-Leads, Body 10x10mm, Pitch 0.8mm, IPC High Density)
footprint TQFP-PT44_M (Thin QFP, 44-Leads, Body 10x10mm, Pitch 0.8mm, IPC Low Density)
pins: 1 SDA1/T1CK/~{U1RTS}/CTED4/CN21/RB9 (io), 2 U1RX/CN18/RC6 (io), 3 U1TX/CN17/RC7 (io), 4 OC2/CN20/RC8 (io), 5 IC2/CTED7/CN19/RC9 (io), 6 IC1/CTED3/CN9/RA7 (io), 7 C2OUT/OC1/CTED1/INT2/CN8/RA6 (io), 8 PGED2/SDI1/CTED11/CN16/RB10 (io), 9 PGEC2/SCK1/CTED9/CN15/RB11 (io), 10 AN12/LVDIN/CTED2/CN14/RB12 (io), 11 AN11/SDO1/CTPLS/CN13/RB13 (io), 12 OC3/CN35/RA10 (io), 13 IC3/CTED8/CN36/RA11 (io), 14 CVREF/AN10/C3INB/RTCC/C1OUT/OCFA/CTED5/INT1/CN12/RB14 (io), 15 AN9/C3INA/T3CK/T2CK/REFO/~{SS1}/CTED6/CN11/RB15 (io), 16 VSS/AVSS (power), 17 VDD/AVDD (power), 18 ~{MCLR}/VPP/RA5 (io), 19 VREF+/CVREF+/AN0/C3INC/CN2/RA0 (io), 20 CVREF-/VREF-/AN1/CN3/RA1 (io), 21 PGED1/AN2/ULPWU/CTCMP/C1IND/C2INB/C3IND/U2TX/CN4/RB0 (io), 22 PGEC1/AN3/C1INC/C2INA/U2RX/CTED12/CN5/RB1 (io), 23 AN4/C1INB/C2IND/SDA2/T5CK/T4CK/CTED13/CN6/RB2 (io), 24 AN5/C1INA/C2INC/SCL2/CN7/RB3 (io), 25 AN6/CN32/RC0 (io), 26 AN7/CN31/RC1 (io), 27 AN8/CN10/RC2 (io), 28 VDD (power), 29 VSS (power), 30 OSCI/AN13/CLKI/CN30/RA2 (io), 31 OSCO/AN14/CLKO/CN29/RA3 (io), 32 OCFB/CN33/RA8 (io), 33 SOSCI/AN15/~{U2RTS}/CN1/RB4 (io), 34 SOSCO/SCLKI/~{U2CTS}/CN0/RA4 (io), 35 ~{SS2}/CN34/RA9 (io), 36 SDI2/CN28/RC3 (io), 37 SDO2/CN25/RC4 (io), 38 SCK2/CN26/RC5 (io), 39 VSS (power), 40 VDD (power), 41 PGED3/ASDA1/CN27/RB5 (io), 42 PGEC3/ASCL1/CN24/RB6 (io), 43 INT0/CN23/RB7 (io), 44 SCL1/~{U1CTS}/C3OUT/CTED10/CN22/RB8 (io)

## PIC24F32KA304T-I/ML
designator U?
16-Bit Flash Microcontroller with XLP Technology, 32KB Flash, 2KB SRAM, 44-Pin QFN, Industrial Temperature, Tape and Reel; Manufacturer: Microchip; PartNumber: PIC24F32KA304T-I/ML; DatasheetVersion: revB, Apr-2011; PackageVersion: revBB, Aug-2009; PackageReference: QFN-ML44; PackageDescription: 44-Lead Plastic Quad Flat, No Lead Package (ML) - 8x8 mm Body [QFN]; Supplier 1: Digi-Key; Supplier Part Number 1: PIC24F32KA304T-I/ML-ND; Supplier 2: Mouser; Supplier Part Number 2: 579-PIC24F32KA304TML; Mounting Technology: Surface Mount; Code_JEDEC: MO-220; Code_IPC: QFN65P800X800-44V2; ComponentLink1Description: Manufacturer URL; ComponentLink1URL: http://www.microchip.com/; ComponentLink2Description: Datasheet; ComponentLink2URL: http://ww1.microchip.com/downloads/en/DeviceDoc/39995_b.pdf; ComponentLink3Description: Package Specification; ComponentLink3URL: http://www.microchip.com/stellent/groups/techpub_sg/documents/packagingspec/en012702.pdf
footprint QFN-ML44_N (QFN, 44-Leads, Body 8x8mm, Pitch 0.65mm, Thermal Pad 6.8x6.8mm, IPC Medium Density)
footprint QFN-ML44_L (QFN, 44-Leads, Body 8x8mm, Pitch 0.65mm, Thermal Pad 6.8x6.8mm, IPC High Density)
footprint QFN-ML44_M (QFN, 44-Leads, Body 8x8mm, Pitch 0.65mm, Thermal Pad 6.8x6.8mm, IPC Low Density)
pins: 1 SDA1/T1CK/~{U1RTS}/CTED4/CN21/RB9 (io), 2 U1RX/CN18/RC6 (io), 3 U1TX/CN17/RC7 (io), 4 OC2/CN20/RC8 (io), 5 IC2/CTED7/CN19/RC9 (io), 6 IC1/CTED3/CN9/RA7 (io), 7 C2OUT/OC1/CTED1/INT2/CN8/RA6 (io), 8 PGED2/SDI1/CTED11/CN16/RB10 (io), 9 PGEC2/SCK1/CTED9/CN15/RB11 (io), 10 AN12/LVDIN/CTED2/CN14/RB12 (io), 11 AN11/SDO1/CTPLS/CN13/RB13 (io), 12 OC3/CN35/RA10 (io), 13 IC3/CTED8/CN36/RA11 (io), 14 CVREF/AN10/C3INB/RTCC/C1OUT/OCFA/CTED5/INT1/CN12/RB14 (io), 15 AN9/C3INA/T3CK/T2CK/REFO/~{SS1}/CTED6/CN11/RB15 (io), 16 VSS/AVSS (power), 17 VDD/AVDD (power), 18 ~{MCLR}/VPP/RA5 (io), 19 VREF+/CVREF+/AN0/C3INC/CN2/RA0 (io), 20 CVREF-/VREF-/AN1/CN3/RA1 (io), 21 PGED1/AN2/ULPWU/CTCMP/C1IND/C2INB/C3IND/U2TX/CN4/RB0 (io), 22 PGEC1/AN3/C1INC/C2INA/U2RX/CTED12/CN5/RB1 (io), 23 AN4/C1INB/C2IND/SDA2/T5CK/T4CK/CTED13/CN6/RB2 (io), 24 AN5/C1INA/C2INC/SCL2/CN7/RB3 (io), 25 AN6/CN32/RC0 (io), 26 AN7/CN31/RC1 (io), 27 AN8/CN10/RC2 (io), 28 VDD (power), 29 VSS (power), 30 OSCI/AN13/CLKI/CN30/RA2 (io), 31 OSCO/AN14/CLKO/CN29/RA3 (io), 32 OCFB/CN33/RA8 (io), 33 SOSCI/AN15/~{U2RTS}/CN1/RB4 (io), 34 SOSCO/SCLKI/~{U2CTS}/CN0/RA4 (io), 35 ~{SS2}/CN34/RA9 (io), 36 SDI2/CN28/RC3 (io), 37 SDO2/CN25/RC4 (io), 38 SCK2/CN26/RC5 (io), 39 VSS (power), 40 VDD (power), 41 PGED3/ASDA1/CN27/RB5 (io), 42 PGEC3/ASCL1/CN24/RB6 (io), 43 INT0/CN23/RB7 (io), 44 SCL1/~{U1CTS}/C3OUT/CTED10/CN22/RB8 (io), 45 VSS (power)

## PIC24F32KA304T-I/MV
designator U?
General Purpose, 16-Bit Flash Microcontroller with XLP Technology, 16 MIPS, 38 I/O, -40 to 85 degC, 48-pin UQFN (MV48), Tape and Reel; Manufacturer: Microchip; PartNumber: PIC24F32KA304T-I/MV; DatasheetVersion: Rev. C; PackageVersion: C04-153A; PackageReference: UQFN-MV48; PackageDescription: 48-Lead Plastic Ultra Thin Quad Flat, No Lead Package, 6 x 6 mm Body, 0.4 mm Pitch; Supplier 1: Digi-Key; Supplier Part Number 1: PIC24F32KA304T-I/MV-ND; Supplier 2: Mouser; Supplier Part Number 2: 579-PIC24F32KA304TMV; Mounting Technology: Surface Mount; ComponentLink1Description: Manufacturer URL; ComponentLink1URL: http://www.microchip.com; ComponentLink2Description: Datasheet; ComponentLink2URL: http://ww1.microchip.com/downloads/en/DeviceDoc/39995c.pdf; ComponentLink3Description: Package Specification; ComponentLink3URL: http://www.microchip.com/stellent/groups/techpub_sg/documents/packagingspec/en012702.pdf; ComponentLink4Description: Product URL; ComponentLink4URL: http://www.microchip.com/PIC24F32KA304
footprint MCHP-UQFN-MV48_N (QFN, 48-Leads, Body 6x6mm, Pitch 0.4mm, Thermal Pad 4.6x4.6mm, IPC Medium Density)
footprint MCHP-UQFN-MV48_L (QFN, 48-Leads, Body 6x6mm, Pitch 0.4mm, Thermal Pad 4.6x4.6mm, IPC High Density)
footprint MCHP-UQFN-MV48_M (QFN, 48-Leads, Body 6x6mm, Pitch 0.4mm, Thermal Pad 4.6x4.6mm, IPC Low Density)
pins: 1 SDA1/T1CK/~{U1RTS}/CTED4/CN21/RB9 (io), 2 U1RX/CN18/RC6 (io), 3 U1TX/CN17/RC7 (io), 4 OC2/CN20/RC8 (io), 5 IC2/CTED7/CN19/RC9 (io), 6 IC1/CTED3/CN9/RA7 (io), 7 C20UT/OC1/CTED1/INT2CN8/RA6 (io), 8 NC, 9 PGED2/SDI1/CTED11/CN16/RB10 (io), 10 PGEC2/SCK1/CTED9/CN15/RB11 (io), 11 AN12/HLVDIN/CTED2/CN14/RB12 (io), 12 AN11/SDO1/CTPLS/CN13/RB13 (io), 13 OC3/CN35/RA10 (io), 14 IC3/CTED8/CN36/RA11 (io), 15 CVREF/AN10/C3INB/RTCC/C1OUT/OCFA/CTED5/INT1/CN12/RB14 (io), 16 AN9/C3INA/T3CK/T2CK/REFO/~{SS1}/CTED6/CN11/RB15 (io), 17 VSS/AVSS (power), 18 VDD/AVDD (power), 19 ~{MCLR}/RA5 (io), 20 NC, 21 VREF+/CVREF+/AN0/C3INC/CN2/RA0 (io), 22 CVREF-/VREF-/AN1/CN3/RA1 (io), 23 PGED1/AN2/ULPWU/CTCMP/C1IND/C2INB/C3IND/U2TX/CN4/RB0 (io), 24 PGEC1/AN3/C1INC/C2INA/U2RX/CTED12/CN5/RB1 (io), 25 AN4/C1INB/C2IND/SDA2/T5CK/T4CK/CTED13/CN6/RB2 (io), 26 AN5/C1INA/C2INC/SCL2/CN7/RB3 (io), 27 AN6/CN32/RC0 (io), 28 AN7/CN31/RC1 (io), 29 AN8/CN10/RC2 (io), 30 VDD (power) "Core Power", 31 VSS (power) "Device Digital Ground Return", 32 NC, 33 OSCI/AN13/CLKI/CN30/RA2 (io), 34 OSCO/AN14/CLKO/CN29/RA3 (io), 35 OCFB/CN33/RA8 (io), 36 SOSCI/AN15/~{U2RTS}/CN1/RB4 (io), 37 SOSCO/SCLKI/~{U2CTS}/CN0/RA4 (io), 38 ~{SS2}/CN34/RA9 (io), 39 SDI2/CN28/RC3 (io), 40 SDO2/CN25/RC4 (io), 41 SCK2/CN26/RC5 (io), 42 VSS (power) "Device Digital Ground Return", 43 VDD (power) "Core Power", 44 NC, 45 PGED3/ASDA1/CN27/RB5 (io), 46 PGEC3/ASCL1/CN24/RB6 (io), 47 INT0/CN23/RB7 (io), 48 SCL1/~{U1CTS}/C3OUT/CTED10/CN22/RB8 (io), 49 EP (power)

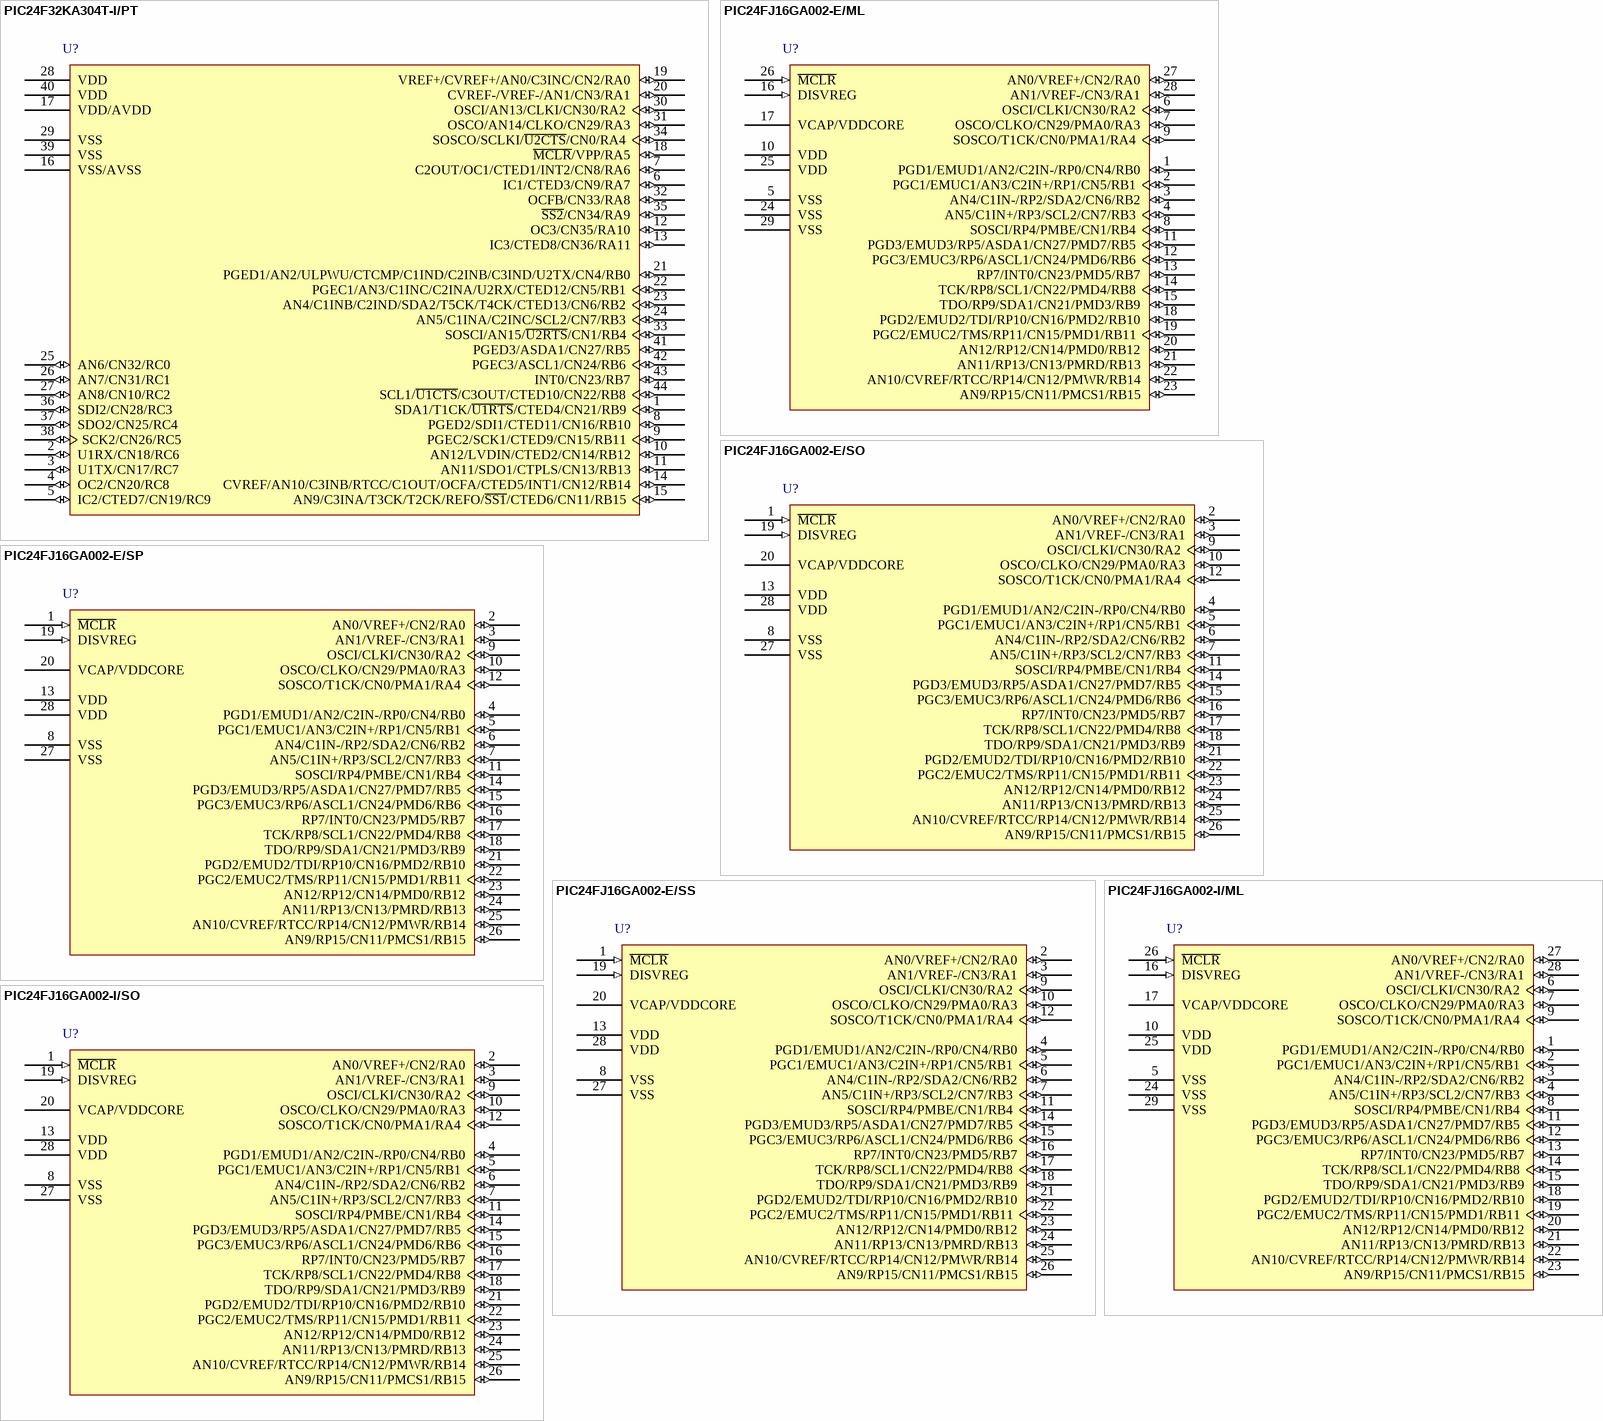
[diagram p21: symbols PIC24F32KA304T-I/PT to PIC24FJ16GA002-I/SO]

## PIC24F32KA304T-I/PT
designator U?
16-Bit Flash Microcontroller with XLP Technology, 32KB Flash, 2KB SRAM, 44-Pin TQFP, Industrial Temperature, Tape and Reel; Manufacturer: Microchip; PartNumber: PIC24F32KA304T-I/PT; DatasheetVersion: revB, Apr-2011; PackageVersion: revBB, Aug-2009; PackageReference: TQFP-PT44; PackageDescription: 44-Lead Plastic Thin Quad Flatpack (PT) - 10x10x1mm Body, 2.00mm [TQFP]; Supplier 1: Digi-Key; Supplier Part Number 1: PIC24F32KA304T-I/PT-ND; Supplier 2: Mouser; Supplier Part Number 2: 579-PIC24F32KA304TIP; Mounting Technology: Surface Mount; Code_JEDEC: MS-026; ComponentLink1Description: Manufacturer URL; ComponentLink1URL: http://www.microchip.com/; ComponentLink2Description: Datasheet; ComponentLink2URL: http://ww1.microchip.com/downloads/en/DeviceDoc/39995_b.pdf; ComponentLink3Description: Package Specification; ComponentLink3URL: http://www.microchip.com/stellent/groups/techpub_sg/documents/packagingspec/en012702.pdf
footprint TQFP-PT44_N (Thin QFP, 44-Leads, Body 10x10mm, Pitch 0.8mm, IPC Medium Density)
footprint TQFP-PT44_L (Thin QFP, 44-Leads, Body 10x10mm, Pitch 0.8mm, IPC High Density)
footprint TQFP-PT44_M (Thin QFP, 44-Leads, Body 10x10mm, Pitch 0.8mm, IPC Low Density)
pins: 1 SDA1/T1CK/~{U1RTS}/CTED4/CN21/RB9 (io), 2 U1RX/CN18/RC6 (io), 3 U1TX/CN17/RC7 (io), 4 OC2/CN20/RC8 (io), 5 IC2/CTED7/CN19/RC9 (io), 6 IC1/CTED3/CN9/RA7 (io), 7 C2OUT/OC1/CTED1/INT2/CN8/RA6 (io), 8 PGED2/SDI1/CTED11/CN16/RB10 (io), 9 PGEC2/SCK1/CTED9/CN15/RB11 (io), 10 AN12/LVDIN/CTED2/CN14/RB12 (io), 11 AN11/SDO1/CTPLS/CN13/RB13 (io), 12 OC3/CN35/RA10 (io), 13 IC3/CTED8/CN36/RA11 (io), 14 CVREF/AN10/C3INB/RTCC/C1OUT/OCFA/CTED5/INT1/CN12/RB14 (io), 15 AN9/C3INA/T3CK/T2CK/REFO/~{SS1}/CTED6/CN11/RB15 (io), 16 VSS/AVSS (power), 17 VDD/AVDD (power), 18 ~{MCLR}/VPP/RA5 (io), 19 VREF+/CVREF+/AN0/C3INC/CN2/RA0 (io), 20 CVREF-/VREF-/AN1/CN3/RA1 (io), 21 PGED1/AN2/ULPWU/CTCMP/C1IND/C2INB/C3IND/U2TX/CN4/RB0 (io), 22 PGEC1/AN3/C1INC/C2INA/U2RX/CTED12/CN5/RB1 (io), 23 AN4/C1INB/C2IND/SDA2/T5CK/T4CK/CTED13/CN6/RB2 (io), 24 AN5/C1INA/C2INC/SCL2/CN7/RB3 (io), 25 AN6/CN32/RC0 (io), 26 AN7/CN31/RC1 (io), 27 AN8/CN10/RC2 (io), 28 VDD (power), 29 VSS (power), 30 OSCI/AN13/CLKI/CN30/RA2 (io), 31 OSCO/AN14/CLKO/CN29/RA3 (io), 32 OCFB/CN33/RA8 (io), 33 SOSCI/AN15/~{U2RTS}/CN1/RB4 (io), 34 SOSCO/SCLKI/~{U2CTS}/CN0/RA4 (io), 35 ~{SS2}/CN34/RA9 (io), 36 SDI2/CN28/RC3 (io), 37 SDO2/CN25/RC4 (io), 38 SCK2/CN26/RC5 (io), 39 VSS (power), 40 VDD (power), 41 PGED3/ASDA1/CN27/RB5 (io), 42 PGEC3/ASCL1/CN24/RB6 (io), 43 INT0/CN23/RB7 (io), 44 SCL1/~{U1CTS}/C3OUT/CTED10/CN22/RB8 (io)

## PIC24FJ16GA002-E/ML
designator U?
General Purpose 16-Bit Flash Microcontroller, 16KB Flash, 4KB SRAM, 28-Pin QFN, Extended Temperature; Manufacturer: Microchip; PartNumber: PIC24FJ16GA002-E/ML; DatasheetVersion: revD, Feb-2010; PackageVersion: revBB, Aug-2009; PackageReference: QFN-ML28; PackageDescription: 28-Lead Plastic Quad Flat, No Lead Package (ML) - 6x6 mm Body [QFN] with 0.55 mm Contact Length; Supplier 1: Digi-Key; Supplier Part Number 1: PIC24FJ16GA002-E/ML-ND; Supplier 2: Newark; Supplier Part Number 2: 98M1904; Supplier 3: Mouser; Supplier Part Number 3: 579-PIC24F16GA002EML; Mounting Technology: Surface Mount; Code_JEDEC: MO-220; ComponentLink1Description: Manufacturer URL; ComponentLink1URL: http://www.microchip.com/; ComponentLink2Description: Datasheet; ComponentLink2URL: http://ww1.microchip.com/downloads/en/DeviceDoc/39881D.pdf; ComponentLink3Description: Package Specification; ComponentLink3URL: http://www.microchip.com/stellent/groups/techpub_sg/documents/packagingspec/en012702.pdf
footprint QFN-ML28_N (QFN, 28-Leads, Body 6x6mm, Pitch 0.65mm, Thermal Pad 4.2x4.2mm, IPC Medium Density)
footprint QFN-ML28_L (QFN, 28-Leads, Body 6x6mm, Pitch 0.65mm, Thermal Pad 4.2x4.2mm, IPC High Density)
footprint QFN-ML28_M (QFN, 28-Leads, Body 6x6mm, Pitch 0.65mm, Thermal Pad 4.2x4.2mm, IPC Low Density)
pins: 1 PGD1/EMUD1/AN2/C2IN-/RP0/CN4/RB0 (io), 2 PGC1/EMUC1/AN3/C2IN+/RP1/CN5/RB1 (io), 3 AN4/C1IN-/RP2/SDA2/CN6/RB2 (io), 4 AN5/C1IN+/RP3/SCL2/CN7/RB3 (io), 5 VSS (power), 6 OSCI/CLKI/CN30/RA2 (io), 7 OSCO/CLKO/CN29/PMA0/RA3 (io), 8 SOSCI/RP4/PMBE/CN1/RB4 (io), 9 SOSCO/T1CK/CN0/PMA1/RA4 (io), 10 VDD (power), 11 PGD3/EMUD3/RP5/ASDA1/CN27/PMD7/RB5 (io), 12 PGC3/EMUC3/RP6/ASCL1/CN24/PMD6/RB6 (io), 13 RP7/INT0/CN23/PMD5/RB7 (io), 14 TCK/RP8/SCL1/CN22/PMD4/RB8 (io), 15 TDO/RP9/SDA1/CN21/PMD3/RB9 (io), 16 DISVREG (in), 17 VCAP/VDDCORE (power), 18 PGD2/EMUD2/TDI/RP10/CN16/PMD2/RB10 (io), 19 PGC2/EMUC2/TMS/RP11/CN15/PMD1/RB11 (io), 20 AN12/RP12/CN14/PMD0/RB12 (io), 21 AN11/RP13/CN13/PMRD/RB13 (io), 22 AN10/CVREF/RTCC/RP14/CN12/PMWR/RB14 (io), 23 AN9/RP15/CN11/PMCS1/RB15 (io), 24 VSS (power), 25 VDD (power), 26 ~{MCLR} (in), 27 AN0/VREF+/CN2/RA0 (io), 28 AN1/VREF-/CN3/RA1 (io), 29 VSS (power)

## PIC24FJ16GA002-E/SO
designator U?
General Purpose 16-Bit Flash Microcontroller, 16KB Flash, 4KB SRAM, 28-Pin SOIC, Extended Temperature; Manufacturer: Microchip; PartNumber: PIC24FJ16GA002-E/SO; DatasheetVersion: revD, Feb-2010; PackageVersion: revBB, Aug-2009; PackageReference: SOIC-SO28; PackageDescription: 28-Lead Plastic Small Outline (SO) - Wide 7.50mm Body [SOIC]; Supplier 1: Digi-Key; Supplier Part Number 1: PIC24FJ16GA002-E/SO-ND; Supplier 2: Newark; Supplier Part Number 2: 98M1905; Supplier 3: Mouser; Supplier Part Number 3: 579-PIC24F16GA002ESO; Mounting Technology: Surface Mount; Code_JEDEC: MS-013; ComponentLink1Description: Manufacturer URL; ComponentLink1URL: http://www.microchip.com/; ComponentLink2Description: Datasheet; ComponentLink2URL: http://ww1.microchip.com/downloads/en/DeviceDoc/39881D.pdf; ComponentLink3Description: Package Specification; ComponentLink3URL: http://www.microchip.com/stellent/groups/techpub_sg/documents/packagingspec/en012702.pdf
footprint SOIC-SO28_N (SOIC, 28-Leads, Body 17.9x7.5mm, Pitch 1.27mm, IPC Medium Density)
footprint SOIC-SO28_L (SOIC, 28-Leads, Body 17.9x7.5mm, Pitch 1.27mm, IPC High Density)
footprint SOIC-SO28_M (SOIC, 28-Leads, Body 17.9x7.5mm, Pitch 1.27mm, IPC Low Density)
pins: 1 ~{MCLR} (in), 2 AN0/VREF+/CN2/RA0 (io), 3 AN1/VREF-/CN3/RA1 (io), 4 PGD1/EMUD1/AN2/C2IN-/RP0/CN4/RB0 (io), 5 PGC1/EMUC1/AN3/C2IN+/RP1/CN5/RB1 (io), 6 AN4/C1IN-/RP2/SDA2/CN6/RB2 (io), 7 AN5/C1IN+/RP3/SCL2/CN7/RB3 (io), 8 VSS (power), 9 OSCI/CLKI/CN30/RA2 (io), 10 OSCO/CLKO/CN29/PMA0/RA3 (io), 11 SOSCI/RP4/PMBE/CN1/RB4 (io), 12 SOSCO/T1CK/CN0/PMA1/RA4 (io), 13 VDD (power), 14 PGD3/EMUD3/RP5/ASDA1/CN27/PMD7/RB5 (io), 15 PGC3/EMUC3/RP6/ASCL1/CN24/PMD6/RB6 (io), 16 RP7/INT0/CN23/PMD5/RB7 (io), 17 TCK/RP8/SCL1/CN22/PMD4/RB8 (io), 18 TDO/RP9/SDA1/CN21/PMD3/RB9 (io), 19 DISVREG (in), 20 VCAP/VDDCORE (power), 21 PGD2/EMUD2/TDI/RP10/CN16/PMD2/RB10 (io), 22 PGC2/EMUC2/TMS/RP11/CN15/PMD1/RB11 (io), 23 AN12/RP12/CN14/PMD0/RB12 (io), 24 AN11/RP13/CN13/PMRD/RB13 (io), 25 AN10/CVREF/RTCC/RP14/CN12/PMWR/RB14 (io), 26 AN9/RP15/CN11/PMCS1/RB15 (io), 27 VSS (power), 28 VDD (power)

## PIC24FJ16GA002-E/SP
designator U?
General Purpose 16-Bit Flash Microcontroller, 16KB Flash, 4KB SRAM, 28-Pin SPDIP, Extended Temperature; Manufacturer: Microchip; PartNumber: PIC24FJ16GA002-E/SP; DatasheetVersion: revD, Feb-2010; PackageVersion: revBB, Aug-2009; PackageReference: SPDIP300-SP28; PackageDescription: 28-Lead Skinny Plastic Dual In-Line (SP) - 300 mil Body [SPDIP]; Supplier 1: Digi-Key; Supplier Part Number 1: PIC24FJ16GA002-E/SP-ND; Supplier 2: Farnell; Supplier Part Number 2: 1816078; Supplier 3: Newark; Supplier Part Number 3: 98M1906; Supplier 4: Mouser; Supplier Part Number 4: 579-PIC24F16GA002ESP; Mounting Technology: Through Hole; ComponentLink1Description: Manufacturer URL; ComponentLink1URL: http://www.microchip.com/; ComponentLink2Description: Datasheet; ComponentLink2URL: http://ww1.microchip.com/downloads/en/DeviceDoc/39881D.pdf; ComponentLink3Description: Package Specification; ComponentLink3URL: http://www.microchip.com/stellent/groups/techpub_sg/documents/packagingspec/en012702.pdf
footprint SPDIP300-SP28 (DIP, 28-Leads, Row Spacing 7.62mm, Pitch 2.54mm, Body 34.9x6.8mm)
pins: 1 ~{MCLR} (in), 2 AN0/VREF+/CN2/RA0 (io), 3 AN1/VREF-/CN3/RA1 (io), 4 PGD1/EMUD1/AN2/C2IN-/RP0/CN4/RB0 (io), 5 PGC1/EMUC1/AN3/C2IN+/RP1/CN5/RB1 (io), 6 AN4/C1IN-/RP2/SDA2/CN6/RB2 (io), 7 AN5/C1IN+/RP3/SCL2/CN7/RB3 (io), 8 VSS (power), 9 OSCI/CLKI/CN30/RA2 (io), 10 OSCO/CLKO/CN29/PMA0/RA3 (io), 11 SOSCI/RP4/PMBE/CN1/RB4 (io), 12 SOSCO/T1CK/CN0/PMA1/RA4 (io), 13 VDD (power), 14 PGD3/EMUD3/RP5/ASDA1/CN27/PMD7/RB5 (io), 15 PGC3/EMUC3/RP6/ASCL1/CN24/PMD6/RB6 (io), 16 RP7/INT0/CN23/PMD5/RB7 (io), 17 TCK/RP8/SCL1/CN22/PMD4/RB8 (io), 18 TDO/RP9/SDA1/CN21/PMD3/RB9 (io), 19 DISVREG (in), 20 VCAP/VDDCORE (power), 21 PGD2/EMUD2/TDI/RP10/CN16/PMD2/RB10 (io), 22 PGC2/EMUC2/TMS/RP11/CN15/PMD1/RB11 (io), 23 AN12/RP12/CN14/PMD0/RB12 (io), 24 AN11/RP13/CN13/PMRD/RB13 (io), 25 AN10/CVREF/RTCC/RP14/CN12/PMWR/RB14 (io), 26 AN9/RP15/CN11/PMCS1/RB15 (io), 27 VSS (power), 28 VDD (power)

## PIC24FJ16GA002-E/SS
designator U?
General Purpose 16-Bit Flash Microcontroller, 16KB Flash, 4KB SRAM, 28-Pin SSOP, Extended Temperature; Manufacturer: Microchip; PartNumber: PIC24FJ16GA002-E/SS; DatasheetVersion: revD, Feb-2010; PackageVersion: revBB, Aug-2009; PackageReference: SSOP-SS28; PackageDescription: 28-Lead Plastic Shrink Small Outline (SS) - 5.3mm Body [SSOP]; Supplier 1: Digi-Key; Supplier Part Number 1: PIC24FJ16GA002-E/SS-ND; Supplier 2: Farnell; Supplier Part Number 2: 1818726; Supplier 3: Newark; Supplier Part Number 3: 98M1907; Supplier 4: Mouser; Supplier Part Number 4: 579-PIC24F16GA002ESS; Mounting Technology: Surface Mount; Code_JEDEC: MS-150; ComponentLink1Description: Manufacturer URL; ComponentLink1URL: http://www.microchip.com/; ComponentLink2Description: Datasheet; ComponentLink2URL: http://ww1.microchip.com/downloads/en/DeviceDoc/39881D.pdf; ComponentLink3Description: Package Specification; ComponentLink3URL: http://www.microchip.com/stellent/groups/techpub_sg/documents/packagingspec/en012702.pdf
footprint SSOP-SS28_N (SOP, 28-Leads, Body 10.2x5.2mm, Pitch 0.65mm, IPC Medium Density)
footprint SSOP-SS28_L (SOP, 28-Leads, Body 10.2x5.2mm, Pitch 0.65mm, IPC High Density)
footprint SSOP-SS28_M (SOP, 28-Leads, Body 10.2x5.2mm, Pitch 0.65mm, IPC Low Density)
pins: 1 ~{MCLR} (in), 2 AN0/VREF+/CN2/RA0 (io), 3 AN1/VREF-/CN3/RA1 (io), 4 PGD1/EMUD1/AN2/C2IN-/RP0/CN4/RB0 (io), 5 PGC1/EMUC1/AN3/C2IN+/RP1/CN5/RB1 (io), 6 AN4/C1IN-/RP2/SDA2/CN6/RB2 (io), 7 AN5/C1IN+/RP3/SCL2/CN7/RB3 (io), 8 VSS (power), 9 OSCI/CLKI/CN30/RA2 (io), 10 OSCO/CLKO/CN29/PMA0/RA3 (io), 11 SOSCI/RP4/PMBE/CN1/RB4 (io), 12 SOSCO/T1CK/CN0/PMA1/RA4 (io), 13 VDD (power), 14 PGD3/EMUD3/RP5/ASDA1/CN27/PMD7/RB5 (io), 15 PGC3/EMUC3/RP6/ASCL1/CN24/PMD6/RB6 (io), 16 RP7/INT0/CN23/PMD5/RB7 (io), 17 TCK/RP8/SCL1/CN22/PMD4/RB8 (io), 18 TDO/RP9/SDA1/CN21/PMD3/RB9 (io), 19 DISVREG (in), 20 VCAP/VDDCORE (power), 21 PGD2/EMUD2/TDI/RP10/CN16/PMD2/RB10 (io), 22 PGC2/EMUC2/TMS/RP11/CN15/PMD1/RB11 (io), 23 AN12/RP12/CN14/PMD0/RB12 (io), 24 AN11/RP13/CN13/PMRD/RB13 (io), 25 AN10/CVREF/RTCC/RP14/CN12/PMWR/RB14 (io), 26 AN9/RP15/CN11/PMCS1/RB15 (io), 27 VSS (power), 28 VDD (power)

## PIC24FJ16GA002-I/ML
designator U?
General Purpose 16-Bit Flash Microcontroller, 16KB Flash, 4KB SRAM, 28-Pin QFN, Industrial Temperature; Manufacturer: Microchip; PartNumber: PIC24FJ16GA002-I/ML; DatasheetVersion: revD, Feb-2010; PackageVersion: revBB, Aug-2009; PackageReference: QFN-ML28; PackageDescription: 28-Lead Plastic Quad Flat, No Lead Package (ML) - 6x6 mm Body [QFN] with 0.55 mm Contact Length; Supplier 1: Digi-Key; Supplier Part Number 1: PIC24FJ16GA002-I/ML-ND; Supplier 2: Newark; Supplier Part Number 2: 40M1425; Supplier 3: Mouser; Supplier Part Number 3: 579-24FJ16GA002I/ML; Mounting Technology: Surface Mount; Code_JEDEC: MO-220; ComponentLink1Description: Manufacturer URL; ComponentLink1URL: http://www.microchip.com/; ComponentLink2Description: Datasheet; ComponentLink2URL: http://ww1.microchip.com/downloads/en/DeviceDoc/39881D.pdf; ComponentLink3Description: Package Specification; ComponentLink3URL: http://www.microchip.com/stellent/groups/techpub_sg/documents/packagingspec/en012702.pdf
footprint QFN-ML28_N (QFN, 28-Leads, Body 6x6mm, Pitch 0.65mm, Thermal Pad 4.2x4.2mm, IPC Medium Density)
footprint QFN-ML28_L (QFN, 28-Leads, Body 6x6mm, Pitch 0.65mm, Thermal Pad 4.2x4.2mm, IPC High Density)
footprint QFN-ML28_M (QFN, 28-Leads, Body 6x6mm, Pitch 0.65mm, Thermal Pad 4.2x4.2mm, IPC Low Density)
pins: 1 PGD1/EMUD1/AN2/C2IN-/RP0/CN4/RB0 (io), 2 PGC1/EMUC1/AN3/C2IN+/RP1/CN5/RB1 (io), 3 AN4/C1IN-/RP2/SDA2/CN6/RB2 (io), 4 AN5/C1IN+/RP3/SCL2/CN7/RB3 (io), 5 VSS (power), 6 OSCI/CLKI/CN30/RA2 (io), 7 OSCO/CLKO/CN29/PMA0/RA3 (io), 8 SOSCI/RP4/PMBE/CN1/RB4 (io), 9 SOSCO/T1CK/CN0/PMA1/RA4 (io), 10 VDD (power), 11 PGD3/EMUD3/RP5/ASDA1/CN27/PMD7/RB5 (io), 12 PGC3/EMUC3/RP6/ASCL1/CN24/PMD6/RB6 (io), 13 RP7/INT0/CN23/PMD5/RB7 (io), 14 TCK/RP8/SCL1/CN22/PMD4/RB8 (io), 15 TDO/RP9/SDA1/CN21/PMD3/RB9 (io), 16 DISVREG (in), 17 VCAP/VDDCORE (power), 18 PGD2/EMUD2/TDI/RP10/CN16/PMD2/RB10 (io), 19 PGC2/EMUC2/TMS/RP11/CN15/PMD1/RB11 (io), 20 AN12/RP12/CN14/PMD0/RB12 (io), 21 AN11/RP13/CN13/PMRD/RB13 (io), 22 AN10/CVREF/RTCC/RP14/CN12/PMWR/RB14 (io), 23 AN9/RP15/CN11/PMCS1/RB15 (io), 24 VSS (power), 25 VDD (power), 26 ~{MCLR} (in), 27 AN0/VREF+/CN2/RA0 (io), 28 AN1/VREF-/CN3/RA1 (io), 29 VSS (power)

## PIC24FJ16GA002-I/SO
designator U?
General Purpose 16-Bit Flash Microcontroller, 16KB Flash, 4KB SRAM, 28-Pin SOIC, Industrial Temperature; Manufacturer: Microchip; PartNumber: PIC24FJ16GA002-I/SO; DatasheetVersion: revD, Feb-2010; PackageVersion: revBB, Aug-2009; PackageReference: SOIC-SO28; PackageDescription: 28-Lead Plastic Small Outline (SO) - Wide 7.50mm Body [SOIC]; Supplier 1: Digi-Key; Supplier Part Number 1: PIC24FJ16GA002-I/SO-ND; Supplier 2: Newark; Supplier Part Number 2: 40M1426; Supplier 3: Mouser; Supplier Part Number 3: 579-PIC24FJ16A002ISO; Mounting Technology: Surface Mount; Code_JEDEC: MS-013; ComponentLink1Description: Manufacturer URL; ComponentLink1URL: http://www.microchip.com/; ComponentLink2Description: Datasheet; ComponentLink2URL: http://ww1.microchip.com/downloads/en/DeviceDoc/39881D.pdf; ComponentLink3Description: Package Specification; ComponentLink3URL: http://www.microchip.com/stellent/groups/techpub_sg/documents/packagingspec/en012702.pdf
footprint SOIC-SO28_N (SOIC, 28-Leads, Body 17.9x7.5mm, Pitch 1.27mm, IPC Medium Density)
footprint SOIC-SO28_L (SOIC, 28-Leads, Body 17.9x7.5mm, Pitch 1.27mm, IPC High Density)
footprint SOIC-SO28_M (SOIC, 28-Leads, Body 17.9x7.5mm, Pitch 1.27mm, IPC Low Density)
pins: 1 ~{MCLR} (in), 2 AN0/VREF+/CN2/RA0 (io), 3 AN1/VREF-/CN3/RA1 (io), 4 PGD1/EMUD1/AN2/C2IN-/RP0/CN4/RB0 (io), 5 PGC1/EMUC1/AN3/C2IN+/RP1/CN5/RB1 (io), 6 AN4/C1IN-/RP2/SDA2/CN6/RB2 (io), 7 AN5/C1IN+/RP3/SCL2/CN7/RB3 (io), 8 VSS (power), 9 OSCI/CLKI/CN30/RA2 (io), 10 OSCO/CLKO/CN29/PMA0/RA3 (io), 11 SOSCI/RP4/PMBE/CN1/RB4 (io), 12 SOSCO/T1CK/CN0/PMA1/RA4 (io), 13 VDD (power), 14 PGD3/EMUD3/RP5/ASDA1/CN27/PMD7/RB5 (io), 15 PGC3/EMUC3/RP6/ASCL1/CN24/PMD6/RB6 (io), 16 RP7/INT0/CN23/PMD5/RB7 (io), 17 TCK/RP8/SCL1/CN22/PMD4/RB8 (io), 18 TDO/RP9/SDA1/CN21/PMD3/RB9 (io), 19 DISVREG (in), 20 VCAP/VDDCORE (power), 21 PGD2/EMUD2/TDI/RP10/CN16/PMD2/RB10 (io), 22 PGC2/EMUC2/TMS/RP11/CN15/PMD1/RB11 (io), 23 AN12/RP12/CN14/PMD0/RB12 (io), 24 AN11/RP13/CN13/PMRD/RB13 (io), 25 AN10/CVREF/RTCC/RP14/CN12/PMWR/RB14 (io), 26 AN9/RP15/CN11/PMCS1/RB15 (io), 27 VSS (power), 28 VDD (power)

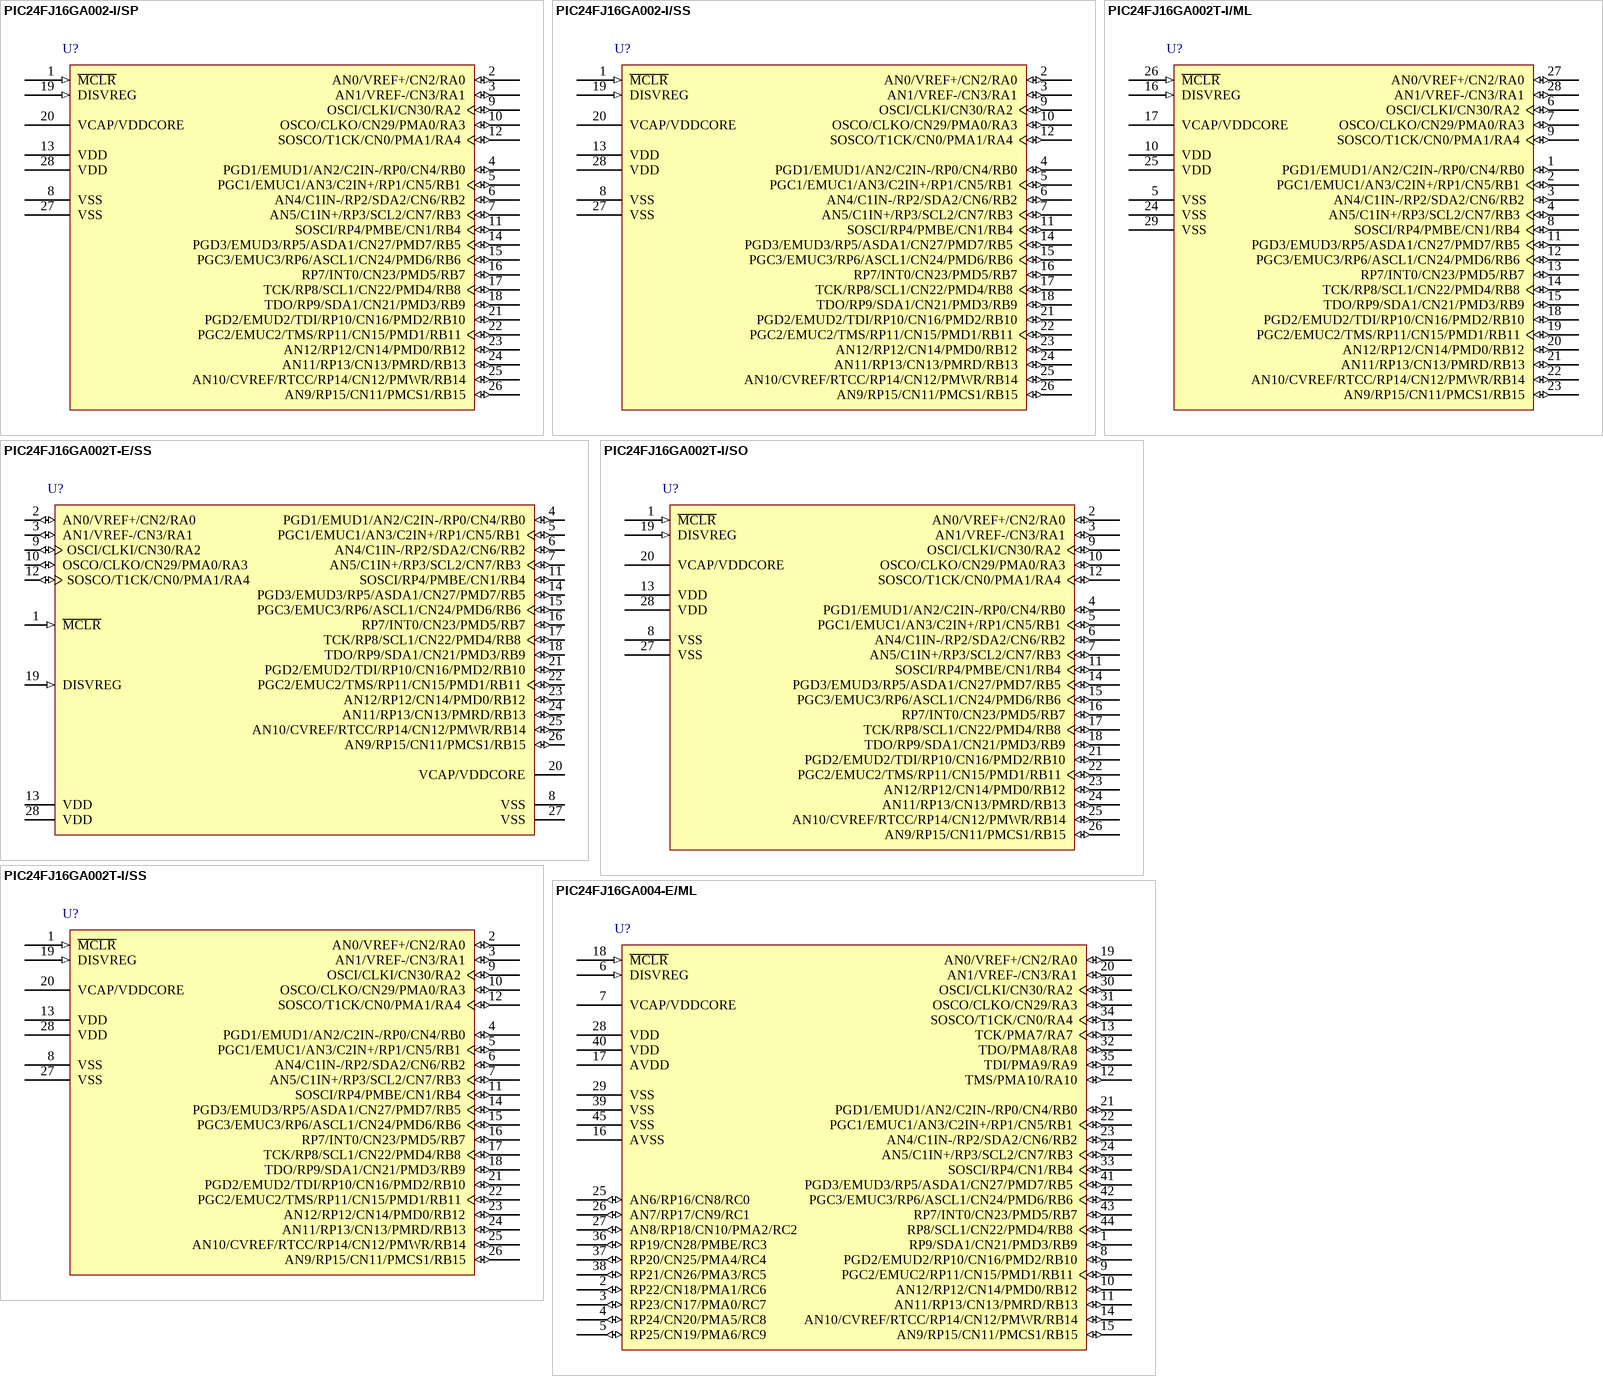
[diagram p22: symbols PIC24FJ16GA002-I/SP to PIC24FJ16GA004-E/ML]

## PIC24FJ16GA002-I/SP
designator U?
General Purpose 16-Bit Flash Microcontroller, 16KB Flash, 4KB SRAM, 28-Pin SPDIP, Industrial Temperature; Manufacturer: Microchip; PartNumber: PIC24FJ16GA002-I/SP; DatasheetVersion: revD, Feb-2010; PackageVersion: revBB, Aug-2009; PackageReference: SPDIP300-SP28; PackageDescription: 28-Lead Skinny Plastic Dual In-Line (SP) - 300 mil Body [SPDIP]; Supplier 1: Digi-Key; Supplier Part Number 1: PIC24FJ16GA002-I/SP-ND; Supplier 2: Newark; Supplier Part Number 2: 40M1427; Supplier 3: Mouser; Supplier Part Number 3: 579-24FJ16GA002I/SP; Mounting Technology: Through Hole; ComponentLink1Description: Manufacturer URL; ComponentLink1URL: http://www.microchip.com/; ComponentLink2Description: Datasheet; ComponentLink2URL: http://ww1.microchip.com/downloads/en/DeviceDoc/39881D.pdf; ComponentLink3Description: Package Specification; ComponentLink3URL: http://www.microchip.com/stellent/groups/techpub_sg/documents/packagingspec/en012702.pdf
footprint SPDIP300-SP28 (DIP, 28-Leads, Row Spacing 7.62mm, Pitch 2.54mm, Body 34.9x6.8mm)
pins: 1 ~{MCLR} (in), 2 AN0/VREF+/CN2/RA0 (io), 3 AN1/VREF-/CN3/RA1 (io), 4 PGD1/EMUD1/AN2/C2IN-/RP0/CN4/RB0 (io), 5 PGC1/EMUC1/AN3/C2IN+/RP1/CN5/RB1 (io), 6 AN4/C1IN-/RP2/SDA2/CN6/RB2 (io), 7 AN5/C1IN+/RP3/SCL2/CN7/RB3 (io), 8 VSS (power), 9 OSCI/CLKI/CN30/RA2 (io), 10 OSCO/CLKO/CN29/PMA0/RA3 (io), 11 SOSCI/RP4/PMBE/CN1/RB4 (io), 12 SOSCO/T1CK/CN0/PMA1/RA4 (io), 13 VDD (power), 14 PGD3/EMUD3/RP5/ASDA1/CN27/PMD7/RB5 (io), 15 PGC3/EMUC3/RP6/ASCL1/CN24/PMD6/RB6 (io), 16 RP7/INT0/CN23/PMD5/RB7 (io), 17 TCK/RP8/SCL1/CN22/PMD4/RB8 (io), 18 TDO/RP9/SDA1/CN21/PMD3/RB9 (io), 19 DISVREG (in), 20 VCAP/VDDCORE (power), 21 PGD2/EMUD2/TDI/RP10/CN16/PMD2/RB10 (io), 22 PGC2/EMUC2/TMS/RP11/CN15/PMD1/RB11 (io), 23 AN12/RP12/CN14/PMD0/RB12 (io), 24 AN11/RP13/CN13/PMRD/RB13 (io), 25 AN10/CVREF/RTCC/RP14/CN12/PMWR/RB14 (io), 26 AN9/RP15/CN11/PMCS1/RB15 (io), 27 VSS (power), 28 VDD (power)